# Altium integrated library Lattice CPLD ispMACH.IntLib: 663 symbols (part 15 of 48)
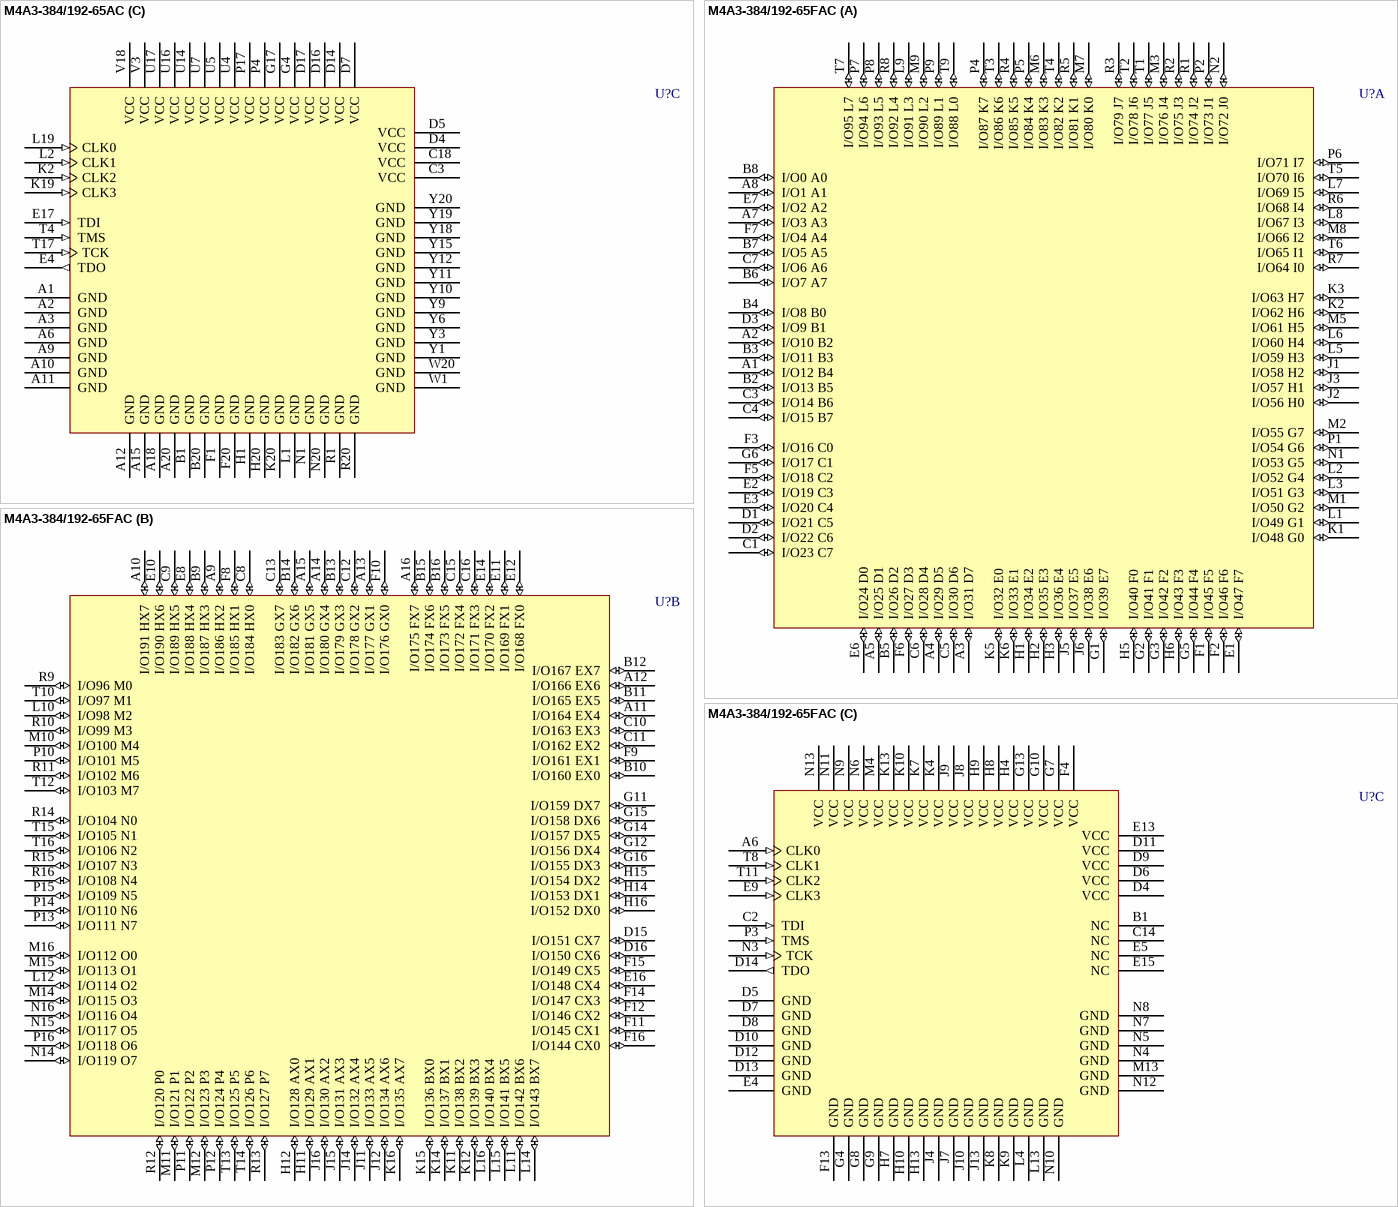
[diagram p320: symbols M4A3-384/192-65AC to M4A3-384/192-65FAC]

## M4A3-384/192-65FAC
designator U?
High-Performance EE CMOS In-System Programmable Logic; Published: 17-Jul-2002; LatestRevisionDate: 13-Apr-2006; LatestRevisionNote: IPC-7351 Footprint Added.; DatasheetVersion: Feb-2001; PackageVersion: pkg_32, Aug-2005; PackageReference: fpBGA256; Publisher: Altium Limited; PackageDescription: 256-Ball Fine Pitch Ball Grid Array (fpBGA256); Code_IPC: BGA100P16X16-256; ComponentLink1Description: Manufacturer Link; ComponentLink1URL: http://www.latticesemi.com/products/mature/index.cfm; ComponentLink2Description: Datasheet; ComponentLink2URL: http://www.latticesemi.com/account/_download.cfm?AMID=1344
footprint fpBGA256 (BGA, 256-Leads, Body 17x17mm, Pitch 1mm)
3D model M4A3-fpBGA256 (256-Ball Fine Pitch Ball Grid Array (fpBGA256))
part A pins: A1 I/O12 B4 (io), A2 I/O10 B2 (io), A3 I/O31 D7 (io), A4 I/O29 D5 (io), A5 I/O25 D1 (io), A7 I/O3 A3 (io), A8 I/O1 A1 (io), B2 I/O13 B5 (io), B3 I/O11 B3 (io), B4 I/O8 B0 (io), B5 I/O26 D2 (io), B6 I/O7 A7 (io), B7 I/O5 A5 (io), B8 I/O0 A0 (io), C1 I/O23 C7 (io), C3 I/O14 B6 (io), C4 I/O15 B7 (io), C5 I/O30 D6 (io), C6 I/O28 D4 (io), C7 I/O6 A6 (io), D1 I/O21 C5 (io), D2 I/O22 C6 (io), D3 I/O9 B1 (io), E1 I/O47 F7 (io), E2 I/O19 C3 (io), E3 I/O20 C4 (io), E6 I/O24 D0 (io), E7 I/O2 A2 (io), F1 I/O45 F5 (io), F2 I/O46 F6 (io), F3 I/O16 C0 (io), F5 I/O18 C2 (io), F6 I/O27 D3 (io), F7 I/O4 A4 (io), G1 I/O39 E7 (io), G2 I/O41 F1 (io), G3 I/O42 F2 (io), G5 I/O44 F4 (io), G6 I/O17 C1 (io), H1 I/O34 E2 (io), H2 I/O35 E3 (io), H3 I/O36 E4 (io), H5 I/O40 F0 (io), H6 I/O43 F3 (io), J1 I/O58 H2 (io), J2 I/O56 H0 (io), J3 I/O57 H1 (io), J5 I/O37 E5 (io), J6 I/O38 E6 (io), K1 I/O48 G0 (io), K2 I/O62 H6 (io), K3 I/O63 H7 (io), K5 I/O32 E0 (io), K6 I/O33 E1 (io), L1 I/O49 G1 (io), L2 I/O52 G4 (io), L3 I/O51 G3 (io), L5 I/O59 H3 (io), L6 I/O60 H4 (io), L7 I/O69 I5 (io), L8 I/O67 I3 (io), L9 I/O91 L3 (io), M1 I/O50 G2 (io), M2 I/O55 G7 (io), M3 I/O76 J4 (io), M5 I/O61 H5 (io), M6 I/O83 K3 (io), M7 I/O80 K0 (io), M8 I/O66 I2 (io), M9 I/O90 L2 (io), N1 I/O53 G5 (io), N2 I/O72 J0 (io), P1 I/O54 G6 (io), P2 I/O73 J1 (io), P4 I/O87 K7 (io), P5 I/O84 K4 (io), P6 I/O71 I7 (io), P7 I/O94 L6 (io), P8 I/O93 L5 (io), P9 I/O89 L1 (io), R1 I/O74 J2 (io), R2 I/O75 J3 (io), R3 I/O79 J7 (io), R4 I/O85 K5 (io), R5 I/O81 K1 (io), R6 I/O68 I4 (io), R7 I/O64 I0 (io), R8 I/O92 L4 (io), T1 I/O77 J5 (io), T2 I/O78 J6 (io), T3 I/O86 K6 (io), T4 I/O82 K2 (io), T5 I/O70 I6 (io), T6 I/O65 I1 (io), T7 I/O95 L7 (io), T9 I/O88 L0 (io)
part B pins: A9 I/O186 HX2 (io), A10 I/O191 HX7 (io), A11 I/O164 EX4 (io), A12 I/O166 EX6 (io), A13 I/O177 GX1 (io), A14 I/O180 GX4 (io), A15 I/O181 GX5 (io), A16 I/O175 FX7 (io), B9 I/O187 HX3 (io), B10 I/O160 EX0 (io), B11 I/O165 EX5 (io), B12 I/O167 EX7 (io), B13 I/O179 GX3 (io), B14 I/O182 GX6 (io), B15 I/O174 FX6 (io), B16 I/O173 FX5 (io), C8 I/O184 HX0 (io), C9 I/O189 HX5 (io), C10 I/O163 EX3 (io), C11 I/O162 EX2 (io), C12 I/O178 GX2 (io), C13 I/O183 GX7 (io), C15 I/O172 FX4 (io), C16 I/O171 FX3 (io), D15 I/O151 CX7 (io), D16 I/O150 CX6 (io), E8 I/O188 HX4 (io), E10 I/O190 HX6 (io), E11 I/O169 FX1 (io), E12 I/O168 FX0 (io), E14 I/O170 FX2 (io), E16 I/O148 CX4 (io), F8 I/O185 HX1 (io), F9 I/O161 EX1 (io), F10 I/O176 GX0 (io), F11 I/O145 CX1 (io), F12 I/O146 CX2 (io), F14 I/O147 CX3 (io), F15 I/O149 CX5 (io), F16 I/O144 CX0 (io), G11 I/O159 DX7 (io), G12 I/O156 DX4 (io), G14 I/O157 DX5 (io), G15 I/O158 DX6 (io), G16 I/O155 DX3 (io), H11 I/O129 AX1 (io), H12 I/O128 AX0 (io), H14 I/O153 DX1 (io), H15 I/O154 DX2 (io), H16 I/O152 DX0 (io), J11 I/O133 AX5 (io), J12 I/O134 AX6 (io), J14 I/O132 AX4 (io), J15 I/O131 AX3 (io), J16 I/O130 AX2 (io), K11 I/O138 BX2 (io), K12 I/O139 BX3 (io), K14 I/O137 BX1 (io), K15 I/O136 BX0 (io), K16 I/O135 AX7 (io), L10 I/O98 M2 (io), L11 I/O142 BX6 (io), L12 I/O114 O2 (io), L14 I/O143 BX7 (io), L15 I/O141 BX5 (io), L16 I/O140 BX4 (io), M10 I/O100 M4 (io), M11 I/O121 P1 (io), M12 I/O123 P3 (io), M14 I/O115 O3 (io), M15 I/O113 O1 (io), M16 I/O112 O0 (io), N14 I/O119 O7 (io), N15 I/O117 O5 (io), N16 I/O116 O4 (io), P10 I/O101 M5 (io), P11 I/O122 P2 (io), P12 I/O124 P4 (io), P13 I/O111 N7 (io), P14 I/O110 N6 (io), P15 I/O109 N5 (io), P16 I/O118 O6 (io), R9 I/O96 M0 (io), R10 I/O99 M3 (io), R11 I/O102 M6 (io), R12 I/O120 P0 (io), R13 I/O127 P7 (io), R14 I/O104 N0 (io), R15 I/O107 N3 (io), R16 I/O108 N4 (io), T10 I/O97 M1 (io), T12 I/O103 M7 (io), T13 I/O125 P5 (io), T14 I/O126 P6 (io), T15 I/O105 N1 (io), T16 I/O106 N2 (io)
part C pins: A6 CLK0 (in), B1 NC, C2 TDI (in), C14 NC, D4 VCC (power), D5 GND (power), D6 VCC (power), D7 GND (power), D8 GND (power), D9 VCC (power), D10 GND (power), D11 VCC (power), D12 GND (power), D13 GND (power), D14 TDO (out), E4 GND (power), E5 NC, E9 CLK3 (in), E13 VCC (power), E15 NC, F4 VCC (power), F13 GND (power), G4 GND (power), G7 VCC (power), G8 GND (power), G9 GND (power), G10 VCC (power), G13 VCC (power), H4 VCC (power), H7 GND (power), H8 VCC (power), H9 VCC (power), H10 GND (power), H13 GND (power), J4 GND (power), J7 GND (power), J8 VCC (power), J9 VCC (power), J10 GND (power), J13 GND (power), K4 VCC (power), K7 VCC (power), K8 GND (power), K9 GND (power), K10 VCC (power), K13 VCC (power), L4 GND (power), L13 GND (power), M4 VCC (power), M13 GND (power), N3 TCK (in), N4 GND (power), N5 GND (power), N6 VCC (power), N7 GND (power), N8 GND (power), N9 VCC (power), N10 GND (power), N11 VCC (power), N12 GND (power), N13 VCC (power), P3 TMS (in), T8 CLK1 (in), T11 CLK2 (in)

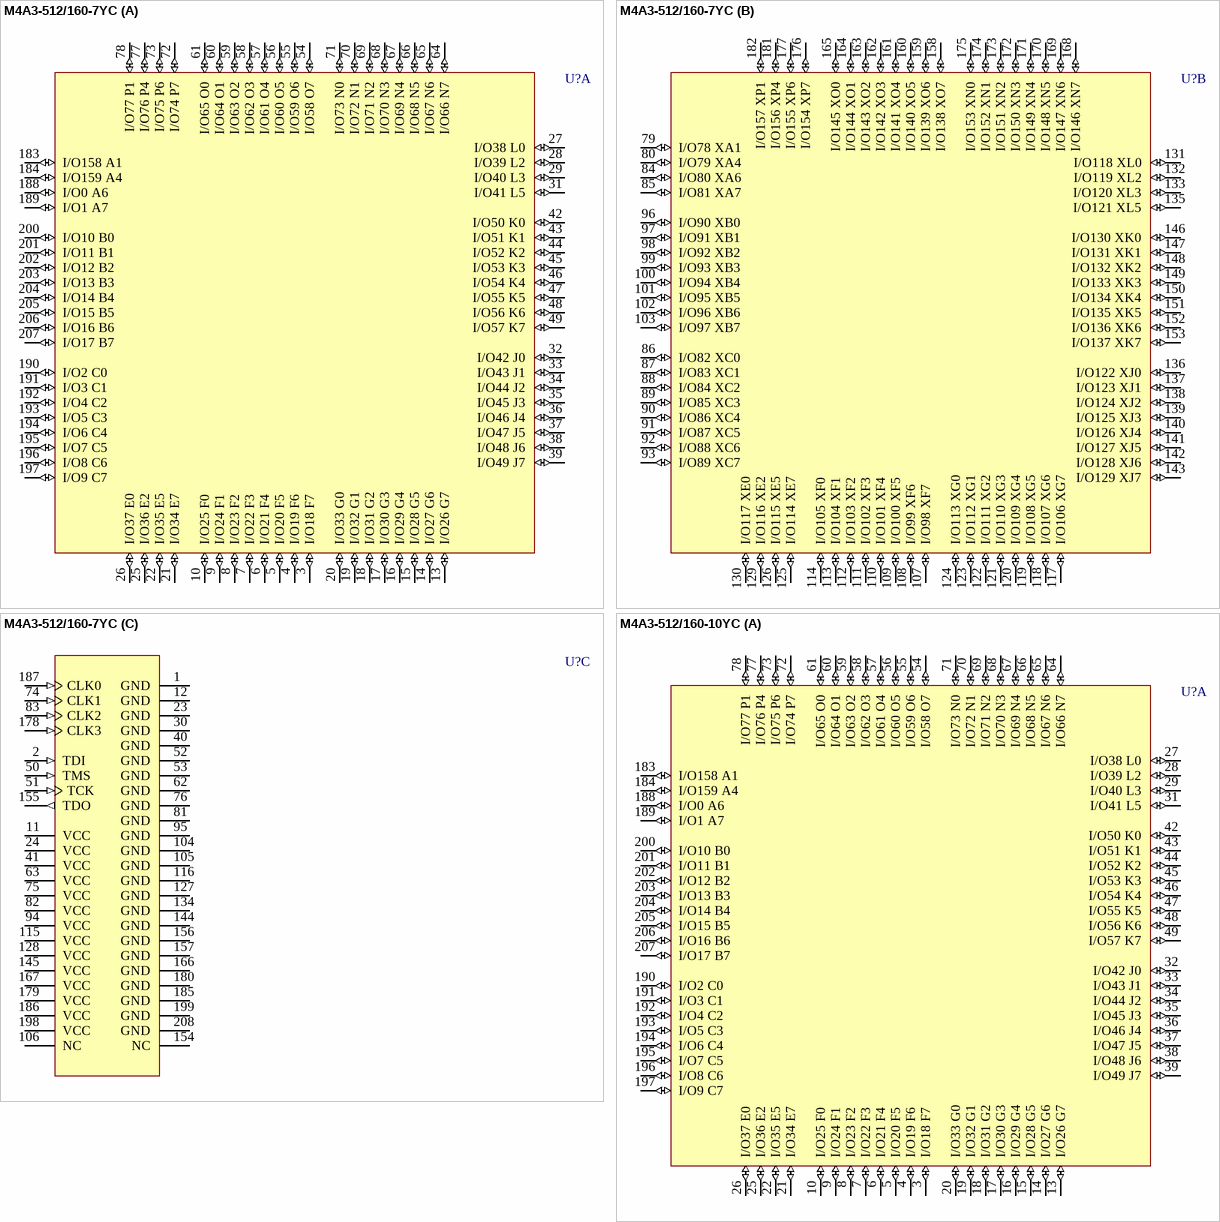
[diagram p88: symbols M4A3-512/160-7YC to M4A3-512/160-10YC]

## M4A3-512/160-7YC
designator U?
High-Performance EE CMOS In-System Programmable Logic; Published: 17-Jul-2002; LatestRevisionDate: 13-Apr-2006; LatestRevisionNote: IPC-7351 Footprint Added.; DatasheetVersion: Feb-2001; PackageVersion: pkg_32, Aug-2005; PackageReference: PQFP208; Publisher: Altium Limited; PackageDescription: 208-Pin Plastic Quad Flat Pack (PQFP208); Code_JEDEC: MO-143-FAI; ComponentLink1Description: Manufacturer Link; ComponentLink1URL: http://www.latticesemi.com/products/mature/index.cfm; ComponentLink2Description: Datasheet; ComponentLink2URL: http://www.latticesemi.com/account/_download.cfm?AMID=1344
footprint PQFP208_N (Shrink QFP, 208-Leads, Body 28x28mm, Pitch 0.5mm, IPC Medium Density)
footprint PQFP208_L (Shrink QFP, 208-Leads, Body 28x28mm, Pitch 0.5mm, IPC High Density)
footprint PQFP208_M (Shrink QFP, 208-Leads, Body 28x28mm, Pitch 0.5mm, IPC Low Density)
3D model M4A3-PQFP208 (208-Pin Plastic Quad Flat Pack (PQFP208))
part A pins: 3 I/O18 F7 (io), 4 I/O19 F6 (io), 5 I/O20 F5 (io), 6 I/O21 F4 (io), 7 I/O22 F3 (io), 8 I/O23 F2 (io), 9 I/O24 F1 (io), 10 I/O25 F0 (io), 13 I/O26 G7 (io), 14 I/O27 G6 (io), 15 I/O28 G5 (io), 16 I/O29 G4 (io), 17 I/O30 G3 (io), 18 I/O31 G2 (io), 19 I/O32 G1 (io), 20 I/O33 G0 (io), 21 I/O34 E7 (io), 22 I/O35 E5 (io), 25 I/O36 E2 (io), 26 I/O37 E0 (io), 27 I/O38 L0 (io), 28 I/O39 L2 (io), 29 I/O40 L3 (io), 31 I/O41 L5 (io), 32 I/O42 J0 (io), 33 I/O43 J1 (io), 34 I/O44 J2 (io), 35 I/O45 J3 (io), 36 I/O46 J4 (io), 37 I/O47 J5 (io), 38 I/O48 J6 (io), 39 I/O49 J7 (io), 42 I/O50 K0 (io), 43 I/O51 K1 (io), 44 I/O52 K2 (io), 45 I/O53 K3 (io), 46 I/O54 K4 (io), 47 I/O55 K5 (io), 48 I/O56 K6 (io), 49 I/O57 K7 (io), 54 I/O58 O7 (io), 55 I/O59 O6 (io), 56 I/O60 O5 (io), 57 I/O61 O4 (io), 58 I/O62 O3 (io), 59 I/O63 O2 (io), 60 I/O64 O1 (io), 61 I/O65 O0 (io), 64 I/O66 N7 (io), 65 I/O67 N6 (io), 66 I/O68 N5 (io), 67 I/O69 N4 (io), 68 I/O70 N3 (io), 69 I/O71 N2 (io), 70 I/O72 N1 (io), 71 I/O73 N0 (io), 72 I/O74 P7 (io), 73 I/O75 P6 (io), 77 I/O76 P4 (io), 78 I/O77 P1 (io), 183 I/O158 A1 (io), 184 I/O159 A4 (io), 188 I/O0 A6 (io), 189 I/O1 A7 (io), 190 I/O2 C0 (io), 191 I/O3 C1 (io), 192 I/O4 C2 (io), 193 I/O5 C3 (io), 194 I/O6 C4 (io), 195 I/O7 C5 (io), 196 I/O8 C6 (io), 197 I/O9 C7 (io), 200 I/O10 B0 (io), 201 I/O11 B1 (io), 202 I/O12 B2 (io), 203 I/O13 B3 (io), 204 I/O14 B4 (io), 205 I/O15 B5 (io), 206 I/O16 B6 (io), 207 I/O17 B7 (io)
part B pins: 79 I/O78 XA1 (io), 80 I/O79 XA4 (io), 84 I/O80 XA6 (io), 85 I/O81 XA7 (io), 86 I/O82 XC0 (io), 87 I/O83 XC1 (io), 88 I/O84 XC2 (io), 89 I/O85 XC3 (io), 90 I/O86 XC4 (io), 91 I/O87 XC5 (io), 92 I/O88 XC6 (io), 93 I/O89 XC7 (io), 96 I/O90 XB0 (io), 97 I/O91 XB1 (io), 98 I/O92 XB2 (io), 99 I/O93 XB3 (io), 100 I/O94 XB4 (io), 101 I/O95 XB5 (io), 102 I/O96 XB6 (io), 103 I/O97 XB7 (io), 107 I/O98 XF7 (io), 108 I/O99 XF6 (io), 109 I/O100 XF5 (io), 110 I/O101 XF4 (io), 111 I/O102 XF3 (io), 112 I/O103 XF2 (io), 113 I/O104 XF1 (io), 114 I/O105 XF0 (io), 117 I/O106 XG7 (io), 118 I/O107 XG6 (io), 119 I/O108 XG5 (io), 120 I/O109 XG4 (io), 121 I/O110 XG3 (io), 122 I/O111 XG2 (io), 123 I/O112 XG1 (io), 124 I/O113 XG0 (io), 125 I/O114 XE7 (io), 126 I/O115 XE5 (io), 129 I/O116 XE2 (io), 130 I/O117 XE0 (io), 131 I/O118 XL0 (io), 132 I/O119 XL2 (io), 133 I/O120 XL3 (io), 135 I/O121 XL5 (io), 136 I/O122 XJ0 (io), 137 I/O123 XJ1 (io), 138 I/O124 XJ2 (io), 139 I/O125 XJ3 (io), 140 I/O126 XJ4 (io), 141 I/O127 XJ5 (io), 142 I/O128 XJ6 (io), 143 I/O129 XJ7 (io), 146 I/O130 XK0 (io), 147 I/O131 XK1 (io), 148 I/O132 XK2 (io), 149 I/O133 XK3 (io), 150 I/O134 XK4 (io), 151 I/O135 XK5 (io), 152 I/O136 XK6 (io), 153 I/O137 XK7 (io), 158 I/O138 XO7 (io), 159 I/O139 XO6 (io), 160 I/O140 XO5 (io), 161 I/O141 XO4 (io), 162 I/O142 XO3 (io), 163 I/O143 XO2 (io), 164 I/O144 XO1 (io), 165 I/O145 XO0 (io), 168 I/O146 XN7 (io), 169 I/O147 XN6 (io), 170 I/O148 XN5 (io), 171 I/O149 XN4 (io), 172 I/O150 XN3 (io), 173 I/O151 XN2 (io), 174 I/O152 XN1 (io), 175 I/O153 XN0 (io), 176 I/O154 XP7 (io), 177 I/O155 XP6 (io), 181 I/O156 XP4 (io), 182 I/O157 XP1 (io)
part C pins: 1 GND (power), 2 TDI (in), 11 VCC (power), 12 GND (power), 23 GND (power), 24 VCC (power), 30 GND (power), 40 GND (power), 41 VCC (power), 50 TMS (in), 51 TCK (in), 52 GND (power), 53 GND (power), 62 GND (power), 63 VCC (power), 74 CLK1 (in), 75 VCC (power), 76 GND (power), 81 GND (power), 82 VCC (power), 83 CLK2 (in), 94 VCC (power), 95 GND (power), 104 GND (power), 105 GND (power), 106 NC, 115 VCC (power), 116 GND (power), 127 GND (power), 128 VCC (power), 134 GND (power), 144 GND (power), 145 VCC (power), 154 NC, 155 TDO (out), 156 GND (power), 157 GND (power), 166 GND (power), 167 VCC (power), 178 CLK3 (in), 179 VCC (power), 180 GND (power), 185 GND (power), 186 VCC (power), 187 CLK0 (in), 198 VCC (power), 199 GND (power), 208 GND (power)

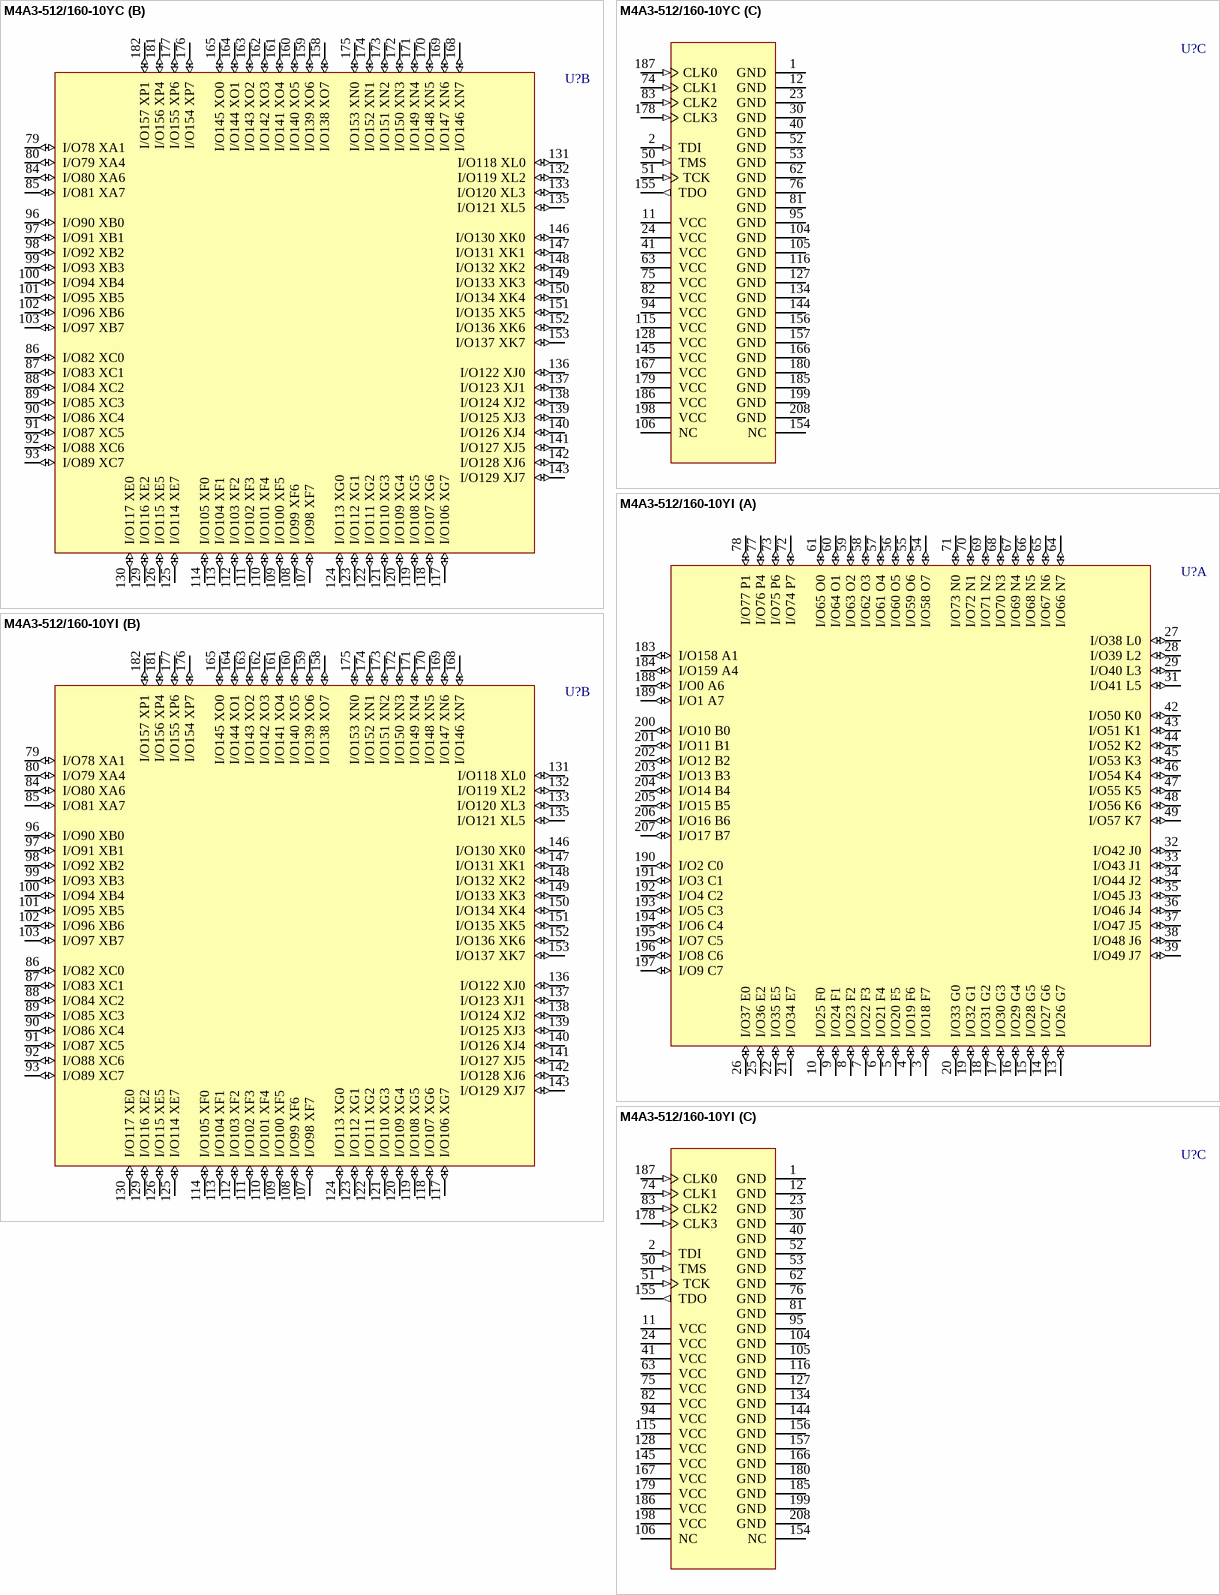
[diagram p89: symbols M4A3-512/160-10YC to M4A3-512/160-10YI]

## M4A3-512/160-10YC
designator U?
High-Performance EE CMOS In-System Programmable Logic; Published: 17-Jul-2002; LatestRevisionDate: 13-Apr-2006; LatestRevisionNote: IPC-7351 Footprint Added.; DatasheetVersion: Feb-2001; PackageVersion: pkg_32, Aug-2005; PackageReference: PQFP208; Publisher: Altium Limited; PackageDescription: 208-Pin Plastic Quad Flat Pack (PQFP208); Code_JEDEC: MO-143-FAI; ComponentLink1Description: Manufacturer Link; ComponentLink1URL: http://www.latticesemi.com/products/mature/index.cfm; ComponentLink2Description: Datasheet; ComponentLink2URL: http://www.latticesemi.com/account/_download.cfm?AMID=1344
footprint PQFP208_N (Shrink QFP, 208-Leads, Body 28x28mm, Pitch 0.5mm, IPC Medium Density)
footprint PQFP208_L (Shrink QFP, 208-Leads, Body 28x28mm, Pitch 0.5mm, IPC High Density)
footprint PQFP208_M (Shrink QFP, 208-Leads, Body 28x28mm, Pitch 0.5mm, IPC Low Density)
3D model M4A3-PQFP208 (208-Pin Plastic Quad Flat Pack (PQFP208))
part A pins: 3 I/O18 F7 (io), 4 I/O19 F6 (io), 5 I/O20 F5 (io), 6 I/O21 F4 (io), 7 I/O22 F3 (io), 8 I/O23 F2 (io), 9 I/O24 F1 (io), 10 I/O25 F0 (io), 13 I/O26 G7 (io), 14 I/O27 G6 (io), 15 I/O28 G5 (io), 16 I/O29 G4 (io), 17 I/O30 G3 (io), 18 I/O31 G2 (io), 19 I/O32 G1 (io), 20 I/O33 G0 (io), 21 I/O34 E7 (io), 22 I/O35 E5 (io), 25 I/O36 E2 (io), 26 I/O37 E0 (io), 27 I/O38 L0 (io), 28 I/O39 L2 (io), 29 I/O40 L3 (io), 31 I/O41 L5 (io), 32 I/O42 J0 (io), 33 I/O43 J1 (io), 34 I/O44 J2 (io), 35 I/O45 J3 (io), 36 I/O46 J4 (io), 37 I/O47 J5 (io), 38 I/O48 J6 (io), 39 I/O49 J7 (io), 42 I/O50 K0 (io), 43 I/O51 K1 (io), 44 I/O52 K2 (io), 45 I/O53 K3 (io), 46 I/O54 K4 (io), 47 I/O55 K5 (io), 48 I/O56 K6 (io), 49 I/O57 K7 (io), 54 I/O58 O7 (io), 55 I/O59 O6 (io), 56 I/O60 O5 (io), 57 I/O61 O4 (io), 58 I/O62 O3 (io), 59 I/O63 O2 (io), 60 I/O64 O1 (io), 61 I/O65 O0 (io), 64 I/O66 N7 (io), 65 I/O67 N6 (io), 66 I/O68 N5 (io), 67 I/O69 N4 (io), 68 I/O70 N3 (io), 69 I/O71 N2 (io), 70 I/O72 N1 (io), 71 I/O73 N0 (io), 72 I/O74 P7 (io), 73 I/O75 P6 (io), 77 I/O76 P4 (io), 78 I/O77 P1 (io), 183 I/O158 A1 (io), 184 I/O159 A4 (io), 188 I/O0 A6 (io), 189 I/O1 A7 (io), 190 I/O2 C0 (io), 191 I/O3 C1 (io), 192 I/O4 C2 (io), 193 I/O5 C3 (io), 194 I/O6 C4 (io), 195 I/O7 C5 (io), 196 I/O8 C6 (io), 197 I/O9 C7 (io), 200 I/O10 B0 (io), 201 I/O11 B1 (io), 202 I/O12 B2 (io), 203 I/O13 B3 (io), 204 I/O14 B4 (io), 205 I/O15 B5 (io), 206 I/O16 B6 (io), 207 I/O17 B7 (io)
part B pins: 79 I/O78 XA1 (io), 80 I/O79 XA4 (io), 84 I/O80 XA6 (io), 85 I/O81 XA7 (io), 86 I/O82 XC0 (io), 87 I/O83 XC1 (io), 88 I/O84 XC2 (io), 89 I/O85 XC3 (io), 90 I/O86 XC4 (io), 91 I/O87 XC5 (io), 92 I/O88 XC6 (io), 93 I/O89 XC7 (io), 96 I/O90 XB0 (io), 97 I/O91 XB1 (io), 98 I/O92 XB2 (io), 99 I/O93 XB3 (io), 100 I/O94 XB4 (io), 101 I/O95 XB5 (io), 102 I/O96 XB6 (io), 103 I/O97 XB7 (io), 107 I/O98 XF7 (io), 108 I/O99 XF6 (io), 109 I/O100 XF5 (io), 110 I/O101 XF4 (io), 111 I/O102 XF3 (io), 112 I/O103 XF2 (io), 113 I/O104 XF1 (io), 114 I/O105 XF0 (io), 117 I/O106 XG7 (io), 118 I/O107 XG6 (io), 119 I/O108 XG5 (io), 120 I/O109 XG4 (io), 121 I/O110 XG3 (io), 122 I/O111 XG2 (io), 123 I/O112 XG1 (io), 124 I/O113 XG0 (io), 125 I/O114 XE7 (io), 126 I/O115 XE5 (io), 129 I/O116 XE2 (io), 130 I/O117 XE0 (io), 131 I/O118 XL0 (io), 132 I/O119 XL2 (io), 133 I/O120 XL3 (io), 135 I/O121 XL5 (io), 136 I/O122 XJ0 (io), 137 I/O123 XJ1 (io), 138 I/O124 XJ2 (io), 139 I/O125 XJ3 (io), 140 I/O126 XJ4 (io), 141 I/O127 XJ5 (io), 142 I/O128 XJ6 (io), 143 I/O129 XJ7 (io), 146 I/O130 XK0 (io), 147 I/O131 XK1 (io), 148 I/O132 XK2 (io), 149 I/O133 XK3 (io), 150 I/O134 XK4 (io), 151 I/O135 XK5 (io), 152 I/O136 XK6 (io), 153 I/O137 XK7 (io), 158 I/O138 XO7 (io), 159 I/O139 XO6 (io), 160 I/O140 XO5 (io), 161 I/O141 XO4 (io), 162 I/O142 XO3 (io), 163 I/O143 XO2 (io), 164 I/O144 XO1 (io), 165 I/O145 XO0 (io), 168 I/O146 XN7 (io), 169 I/O147 XN6 (io), 170 I/O148 XN5 (io), 171 I/O149 XN4 (io), 172 I/O150 XN3 (io), 173 I/O151 XN2 (io), 174 I/O152 XN1 (io), 175 I/O153 XN0 (io), 176 I/O154 XP7 (io), 177 I/O155 XP6 (io), 181 I/O156 XP4 (io), 182 I/O157 XP1 (io)
part C pins: 1 GND (power), 2 TDI (in), 11 VCC (power), 12 GND (power), 23 GND (power), 24 VCC (power), 30 GND (power), 40 GND (power), 41 VCC (power), 50 TMS (in), 51 TCK (in), 52 GND (power), 53 GND (power), 62 GND (power), 63 VCC (power), 74 CLK1 (in), 75 VCC (power), 76 GND (power), 81 GND (power), 82 VCC (power), 83 CLK2 (in), 94 VCC (power), 95 GND (power), 104 GND (power), 105 GND (power), 106 NC, 115 VCC (power), 116 GND (power), 127 GND (power), 128 VCC (power), 134 GND (power), 144 GND (power), 145 VCC (power), 154 NC, 155 TDO (out), 156 GND (power), 157 GND (power), 166 GND (power), 167 VCC (power), 178 CLK3 (in), 179 VCC (power), 180 GND (power), 185 GND (power), 186 VCC (power), 187 CLK0 (in), 198 VCC (power), 199 GND (power), 208 GND (power)

## M4A3-512/160-10YI
designator U?
High-Performance EE CMOS In-System Programmable Logic; Published: 17-Jul-2002; LatestRevisionDate: 13-Apr-2006; LatestRevisionNote: IPC-7351 Footprint Added.; DatasheetVersion: Feb-2001; PackageVersion: pkg_32, Aug-2005; PackageReference: PQFP208; Publisher: Altium Limited; PackageDescription: 208-Pin Plastic Quad Flat Pack (PQFP208); Code_JEDEC: MO-143-FAI; ComponentLink1Description: Manufacturer Link; ComponentLink1URL: http://www.latticesemi.com/products/mature/index.cfm; ComponentLink2Description: Datasheet; ComponentLink2URL: http://www.latticesemi.com/account/_download.cfm?AMID=1344
footprint PQFP208_N (Shrink QFP, 208-Leads, Body 28x28mm, Pitch 0.5mm, IPC Medium Density)
footprint PQFP208_L (Shrink QFP, 208-Leads, Body 28x28mm, Pitch 0.5mm, IPC High Density)
footprint PQFP208_M (Shrink QFP, 208-Leads, Body 28x28mm, Pitch 0.5mm, IPC Low Density)
3D model M4A3-PQFP208 (208-Pin Plastic Quad Flat Pack (PQFP208))
part A pins: 3 I/O18 F7 (io), 4 I/O19 F6 (io), 5 I/O20 F5 (io), 6 I/O21 F4 (io), 7 I/O22 F3 (io), 8 I/O23 F2 (io), 9 I/O24 F1 (io), 10 I/O25 F0 (io), 13 I/O26 G7 (io), 14 I/O27 G6 (io), 15 I/O28 G5 (io), 16 I/O29 G4 (io), 17 I/O30 G3 (io), 18 I/O31 G2 (io), 19 I/O32 G1 (io), 20 I/O33 G0 (io), 21 I/O34 E7 (io), 22 I/O35 E5 (io), 25 I/O36 E2 (io), 26 I/O37 E0 (io), 27 I/O38 L0 (io), 28 I/O39 L2 (io), 29 I/O40 L3 (io), 31 I/O41 L5 (io), 32 I/O42 J0 (io), 33 I/O43 J1 (io), 34 I/O44 J2 (io), 35 I/O45 J3 (io), 36 I/O46 J4 (io), 37 I/O47 J5 (io), 38 I/O48 J6 (io), 39 I/O49 J7 (io), 42 I/O50 K0 (io), 43 I/O51 K1 (io), 44 I/O52 K2 (io), 45 I/O53 K3 (io), 46 I/O54 K4 (io), 47 I/O55 K5 (io), 48 I/O56 K6 (io), 49 I/O57 K7 (io), 54 I/O58 O7 (io), 55 I/O59 O6 (io), 56 I/O60 O5 (io), 57 I/O61 O4 (io), 58 I/O62 O3 (io), 59 I/O63 O2 (io), 60 I/O64 O1 (io), 61 I/O65 O0 (io), 64 I/O66 N7 (io), 65 I/O67 N6 (io), 66 I/O68 N5 (io), 67 I/O69 N4 (io), 68 I/O70 N3 (io), 69 I/O71 N2 (io), 70 I/O72 N1 (io), 71 I/O73 N0 (io), 72 I/O74 P7 (io), 73 I/O75 P6 (io), 77 I/O76 P4 (io), 78 I/O77 P1 (io), 183 I/O158 A1 (io), 184 I/O159 A4 (io), 188 I/O0 A6 (io), 189 I/O1 A7 (io), 190 I/O2 C0 (io), 191 I/O3 C1 (io), 192 I/O4 C2 (io), 193 I/O5 C3 (io), 194 I/O6 C4 (io), 195 I/O7 C5 (io), 196 I/O8 C6 (io), 197 I/O9 C7 (io), 200 I/O10 B0 (io), 201 I/O11 B1 (io), 202 I/O12 B2 (io), 203 I/O13 B3 (io), 204 I/O14 B4 (io), 205 I/O15 B5 (io), 206 I/O16 B6 (io), 207 I/O17 B7 (io)
part B pins: 79 I/O78 XA1 (io), 80 I/O79 XA4 (io), 84 I/O80 XA6 (io), 85 I/O81 XA7 (io), 86 I/O82 XC0 (io), 87 I/O83 XC1 (io), 88 I/O84 XC2 (io), 89 I/O85 XC3 (io), 90 I/O86 XC4 (io), 91 I/O87 XC5 (io), 92 I/O88 XC6 (io), 93 I/O89 XC7 (io), 96 I/O90 XB0 (io), 97 I/O91 XB1 (io), 98 I/O92 XB2 (io), 99 I/O93 XB3 (io), 100 I/O94 XB4 (io), 101 I/O95 XB5 (io), 102 I/O96 XB6 (io), 103 I/O97 XB7 (io), 107 I/O98 XF7 (io), 108 I/O99 XF6 (io), 109 I/O100 XF5 (io), 110 I/O101 XF4 (io), 111 I/O102 XF3 (io), 112 I/O103 XF2 (io), 113 I/O104 XF1 (io), 114 I/O105 XF0 (io), 117 I/O106 XG7 (io), 118 I/O107 XG6 (io), 119 I/O108 XG5 (io), 120 I/O109 XG4 (io), 121 I/O110 XG3 (io), 122 I/O111 XG2 (io), 123 I/O112 XG1 (io), 124 I/O113 XG0 (io), 125 I/O114 XE7 (io), 126 I/O115 XE5 (io), 129 I/O116 XE2 (io), 130 I/O117 XE0 (io), 131 I/O118 XL0 (io), 132 I/O119 XL2 (io), 133 I/O120 XL3 (io), 135 I/O121 XL5 (io), 136 I/O122 XJ0 (io), 137 I/O123 XJ1 (io), 138 I/O124 XJ2 (io), 139 I/O125 XJ3 (io), 140 I/O126 XJ4 (io), 141 I/O127 XJ5 (io), 142 I/O128 XJ6 (io), 143 I/O129 XJ7 (io), 146 I/O130 XK0 (io), 147 I/O131 XK1 (io), 148 I/O132 XK2 (io), 149 I/O133 XK3 (io), 150 I/O134 XK4 (io), 151 I/O135 XK5 (io), 152 I/O136 XK6 (io), 153 I/O137 XK7 (io), 158 I/O138 XO7 (io), 159 I/O139 XO6 (io), 160 I/O140 XO5 (io), 161 I/O141 XO4 (io), 162 I/O142 XO3 (io), 163 I/O143 XO2 (io), 164 I/O144 XO1 (io), 165 I/O145 XO0 (io), 168 I/O146 XN7 (io), 169 I/O147 XN6 (io), 170 I/O148 XN5 (io), 171 I/O149 XN4 (io), 172 I/O150 XN3 (io), 173 I/O151 XN2 (io), 174 I/O152 XN1 (io), 175 I/O153 XN0 (io), 176 I/O154 XP7 (io), 177 I/O155 XP6 (io), 181 I/O156 XP4 (io), 182 I/O157 XP1 (io)
part C pins: 1 GND (power), 2 TDI (in), 11 VCC (power), 12 GND (power), 23 GND (power), 24 VCC (power), 30 GND (power), 40 GND (power), 41 VCC (power), 50 TMS (in), 51 TCK (in), 52 GND (power), 53 GND (power), 62 GND (power), 63 VCC (power), 74 CLK1 (in), 75 VCC (power), 76 GND (power), 81 GND (power), 82 VCC (power), 83 CLK2 (in), 94 VCC (power), 95 GND (power), 104 GND (power), 105 GND (power), 106 NC, 115 VCC (power), 116 GND (power), 127 GND (power), 128 VCC (power), 134 GND (power), 144 GND (power), 145 VCC (power), 154 NC, 155 TDO (out), 156 GND (power), 157 GND (power), 166 GND (power), 167 VCC (power), 178 CLK3 (in), 179 VCC (power), 180 GND (power), 185 GND (power), 186 VCC (power), 187 CLK0 (in), 198 VCC (power), 199 GND (power), 208 GND (power)

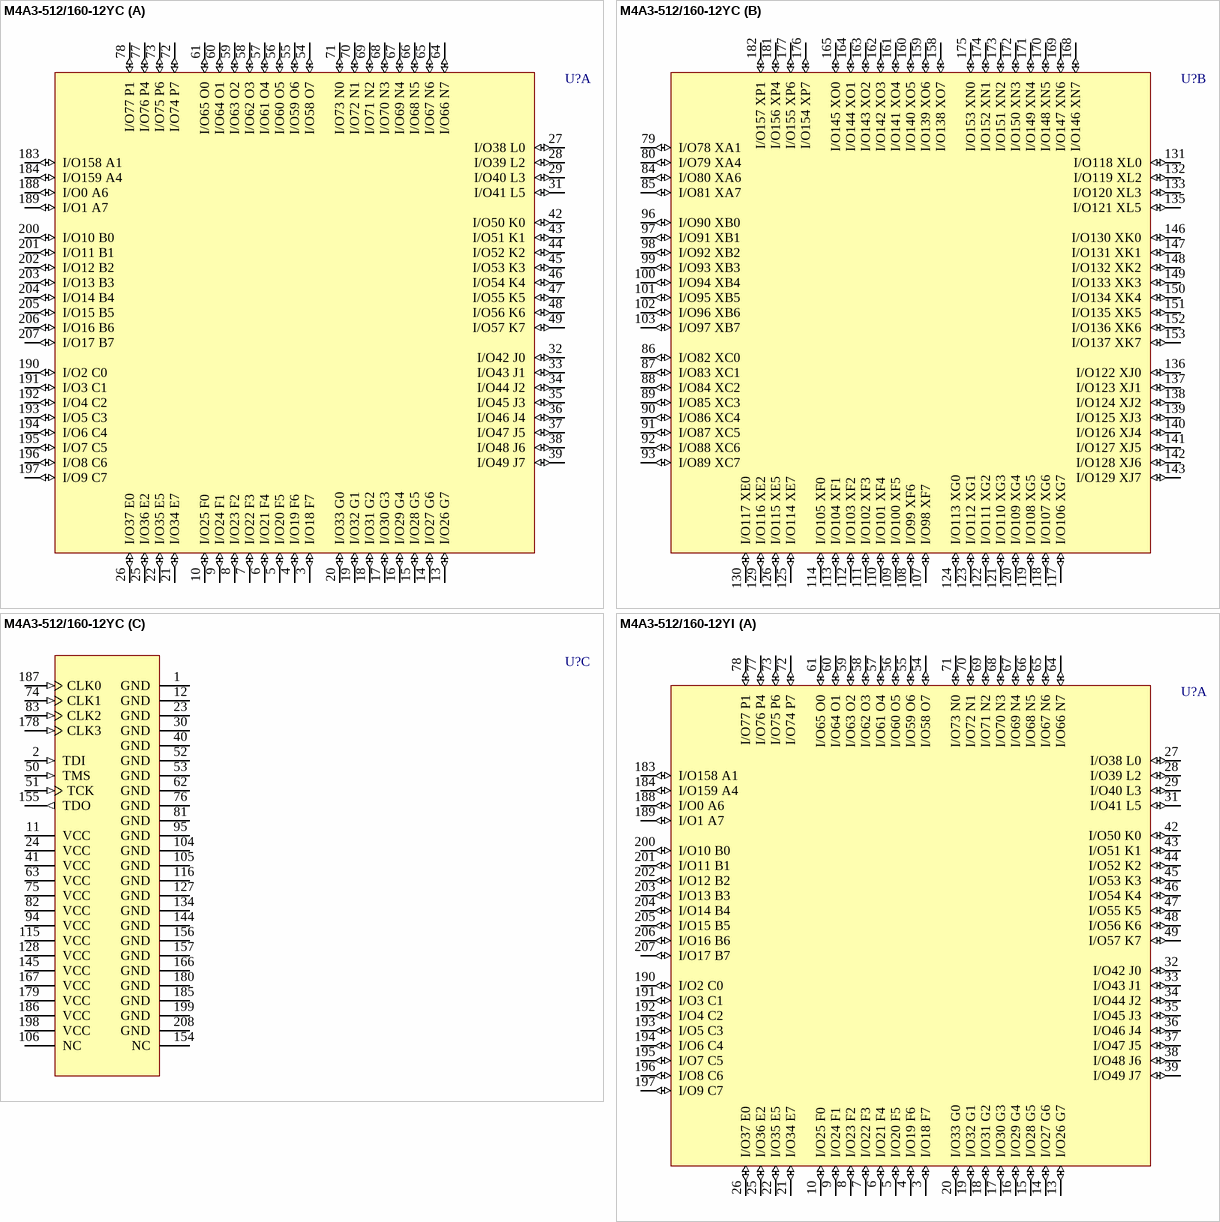
[diagram p90: symbols M4A3-512/160-12YC to M4A3-512/160-12YI]

## M4A3-512/160-12YC
designator U?
High-Performance EE CMOS In-System Programmable Logic; Published: 17-Jul-2002; LatestRevisionDate: 13-Apr-2006; LatestRevisionNote: IPC-7351 Footprint Added.; DatasheetVersion: Feb-2001; PackageVersion: pkg_32, Aug-2005; PackageReference: PQFP208; Publisher: Altium Limited; PackageDescription: 208-Pin Plastic Quad Flat Pack (PQFP208); Code_JEDEC: MO-143-FAI; ComponentLink1Description: Manufacturer Link; ComponentLink1URL: http://www.latticesemi.com/products/mature/index.cfm; ComponentLink2Description: Datasheet; ComponentLink2URL: http://www.latticesemi.com/account/_download.cfm?AMID=1344
footprint PQFP208_N (Shrink QFP, 208-Leads, Body 28x28mm, Pitch 0.5mm, IPC Medium Density)
footprint PQFP208_L (Shrink QFP, 208-Leads, Body 28x28mm, Pitch 0.5mm, IPC High Density)
footprint PQFP208_M (Shrink QFP, 208-Leads, Body 28x28mm, Pitch 0.5mm, IPC Low Density)
3D model M4A3-PQFP208 (208-Pin Plastic Quad Flat Pack (PQFP208))
part A pins: 3 I/O18 F7 (io), 4 I/O19 F6 (io), 5 I/O20 F5 (io), 6 I/O21 F4 (io), 7 I/O22 F3 (io), 8 I/O23 F2 (io), 9 I/O24 F1 (io), 10 I/O25 F0 (io), 13 I/O26 G7 (io), 14 I/O27 G6 (io), 15 I/O28 G5 (io), 16 I/O29 G4 (io), 17 I/O30 G3 (io), 18 I/O31 G2 (io), 19 I/O32 G1 (io), 20 I/O33 G0 (io), 21 I/O34 E7 (io), 22 I/O35 E5 (io), 25 I/O36 E2 (io), 26 I/O37 E0 (io), 27 I/O38 L0 (io), 28 I/O39 L2 (io), 29 I/O40 L3 (io), 31 I/O41 L5 (io), 32 I/O42 J0 (io), 33 I/O43 J1 (io), 34 I/O44 J2 (io), 35 I/O45 J3 (io), 36 I/O46 J4 (io), 37 I/O47 J5 (io), 38 I/O48 J6 (io), 39 I/O49 J7 (io), 42 I/O50 K0 (io), 43 I/O51 K1 (io), 44 I/O52 K2 (io), 45 I/O53 K3 (io), 46 I/O54 K4 (io), 47 I/O55 K5 (io), 48 I/O56 K6 (io), 49 I/O57 K7 (io), 54 I/O58 O7 (io), 55 I/O59 O6 (io), 56 I/O60 O5 (io), 57 I/O61 O4 (io), 58 I/O62 O3 (io), 59 I/O63 O2 (io), 60 I/O64 O1 (io), 61 I/O65 O0 (io), 64 I/O66 N7 (io), 65 I/O67 N6 (io), 66 I/O68 N5 (io), 67 I/O69 N4 (io), 68 I/O70 N3 (io), 69 I/O71 N2 (io), 70 I/O72 N1 (io), 71 I/O73 N0 (io), 72 I/O74 P7 (io), 73 I/O75 P6 (io), 77 I/O76 P4 (io), 78 I/O77 P1 (io), 183 I/O158 A1 (io), 184 I/O159 A4 (io), 188 I/O0 A6 (io), 189 I/O1 A7 (io), 190 I/O2 C0 (io), 191 I/O3 C1 (io), 192 I/O4 C2 (io), 193 I/O5 C3 (io), 194 I/O6 C4 (io), 195 I/O7 C5 (io), 196 I/O8 C6 (io), 197 I/O9 C7 (io), 200 I/O10 B0 (io), 201 I/O11 B1 (io), 202 I/O12 B2 (io), 203 I/O13 B3 (io), 204 I/O14 B4 (io), 205 I/O15 B5 (io), 206 I/O16 B6 (io), 207 I/O17 B7 (io)
part B pins: 79 I/O78 XA1 (io), 80 I/O79 XA4 (io), 84 I/O80 XA6 (io), 85 I/O81 XA7 (io), 86 I/O82 XC0 (io), 87 I/O83 XC1 (io), 88 I/O84 XC2 (io), 89 I/O85 XC3 (io), 90 I/O86 XC4 (io), 91 I/O87 XC5 (io), 92 I/O88 XC6 (io), 93 I/O89 XC7 (io), 96 I/O90 XB0 (io), 97 I/O91 XB1 (io), 98 I/O92 XB2 (io), 99 I/O93 XB3 (io), 100 I/O94 XB4 (io), 101 I/O95 XB5 (io), 102 I/O96 XB6 (io), 103 I/O97 XB7 (io), 107 I/O98 XF7 (io), 108 I/O99 XF6 (io), 109 I/O100 XF5 (io), 110 I/O101 XF4 (io), 111 I/O102 XF3 (io), 112 I/O103 XF2 (io), 113 I/O104 XF1 (io), 114 I/O105 XF0 (io), 117 I/O106 XG7 (io), 118 I/O107 XG6 (io), 119 I/O108 XG5 (io), 120 I/O109 XG4 (io), 121 I/O110 XG3 (io), 122 I/O111 XG2 (io), 123 I/O112 XG1 (io), 124 I/O113 XG0 (io), 125 I/O114 XE7 (io), 126 I/O115 XE5 (io), 129 I/O116 XE2 (io), 130 I/O117 XE0 (io), 131 I/O118 XL0 (io), 132 I/O119 XL2 (io), 133 I/O120 XL3 (io), 135 I/O121 XL5 (io), 136 I/O122 XJ0 (io), 137 I/O123 XJ1 (io), 138 I/O124 XJ2 (io), 139 I/O125 XJ3 (io), 140 I/O126 XJ4 (io), 141 I/O127 XJ5 (io), 142 I/O128 XJ6 (io), 143 I/O129 XJ7 (io), 146 I/O130 XK0 (io), 147 I/O131 XK1 (io), 148 I/O132 XK2 (io), 149 I/O133 XK3 (io), 150 I/O134 XK4 (io), 151 I/O135 XK5 (io), 152 I/O136 XK6 (io), 153 I/O137 XK7 (io), 158 I/O138 XO7 (io), 159 I/O139 XO6 (io), 160 I/O140 XO5 (io), 161 I/O141 XO4 (io), 162 I/O142 XO3 (io), 163 I/O143 XO2 (io), 164 I/O144 XO1 (io), 165 I/O145 XO0 (io), 168 I/O146 XN7 (io), 169 I/O147 XN6 (io), 170 I/O148 XN5 (io), 171 I/O149 XN4 (io), 172 I/O150 XN3 (io), 173 I/O151 XN2 (io), 174 I/O152 XN1 (io), 175 I/O153 XN0 (io), 176 I/O154 XP7 (io), 177 I/O155 XP6 (io), 181 I/O156 XP4 (io), 182 I/O157 XP1 (io)
part C pins: 1 GND (power), 2 TDI (in), 11 VCC (power), 12 GND (power), 23 GND (power), 24 VCC (power), 30 GND (power), 40 GND (power), 41 VCC (power), 50 TMS (in), 51 TCK (in), 52 GND (power), 53 GND (power), 62 GND (power), 63 VCC (power), 74 CLK1 (in), 75 VCC (power), 76 GND (power), 81 GND (power), 82 VCC (power), 83 CLK2 (in), 94 VCC (power), 95 GND (power), 104 GND (power), 105 GND (power), 106 NC, 115 VCC (power), 116 GND (power), 127 GND (power), 128 VCC (power), 134 GND (power), 144 GND (power), 145 VCC (power), 154 NC, 155 TDO (out), 156 GND (power), 157 GND (power), 166 GND (power), 167 VCC (power), 178 CLK3 (in), 179 VCC (power), 180 GND (power), 185 GND (power), 186 VCC (power), 187 CLK0 (in), 198 VCC (power), 199 GND (power), 208 GND (power)

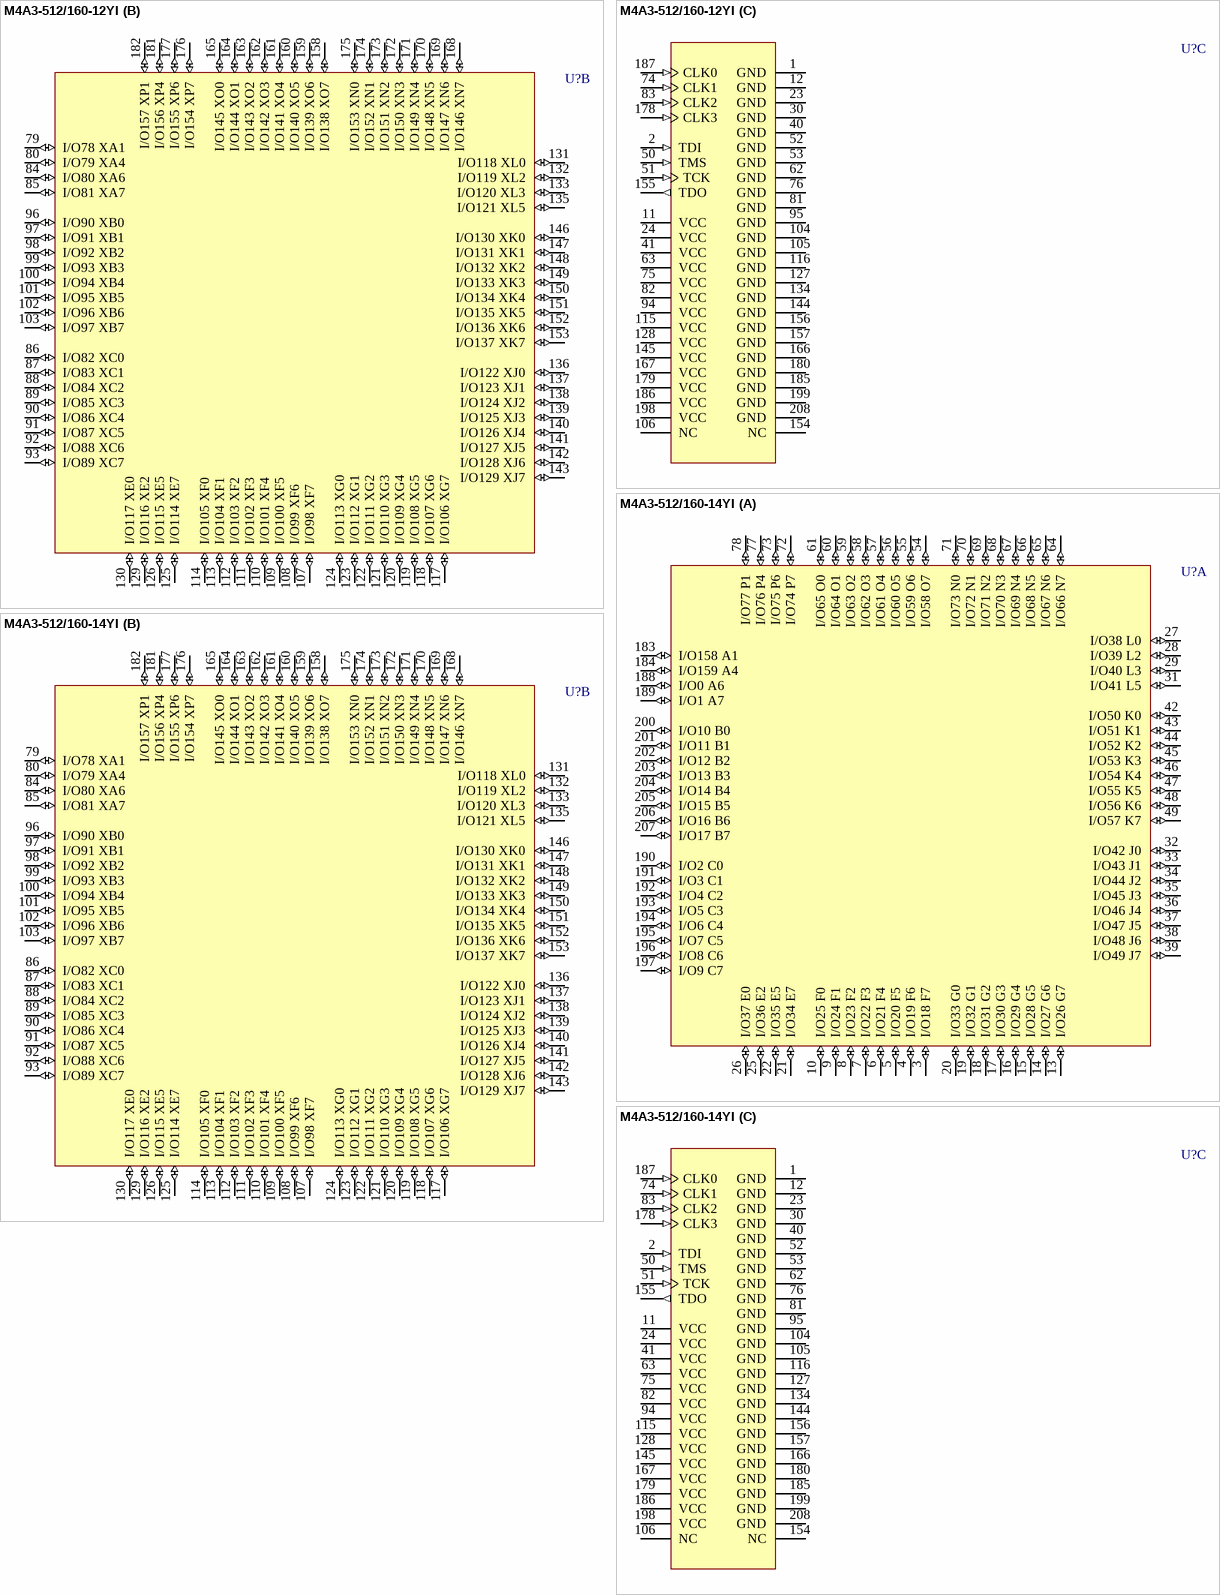
[diagram p91: symbols M4A3-512/160-12YI to M4A3-512/160-14YI]

## M4A3-512/160-12YI
designator U?
High-Performance EE CMOS In-System Programmable Logic; Published: 17-Jul-2002; LatestRevisionDate: 13-Apr-2006; LatestRevisionNote: IPC-7351 Footprint Added.; DatasheetVersion: Feb-2001; PackageVersion: pkg_32, Aug-2005; PackageReference: PQFP208; Publisher: Altium Limited; PackageDescription: 208-Pin Plastic Quad Flat Pack (PQFP208); Code_JEDEC: MO-143-FAI; ComponentLink1Description: Manufacturer Link; ComponentLink1URL: http://www.latticesemi.com/products/mature/index.cfm; ComponentLink2Description: Datasheet; ComponentLink2URL: http://www.latticesemi.com/account/_download.cfm?AMID=1344
footprint PQFP208_N (Shrink QFP, 208-Leads, Body 28x28mm, Pitch 0.5mm, IPC Medium Density)
footprint PQFP208_L (Shrink QFP, 208-Leads, Body 28x28mm, Pitch 0.5mm, IPC High Density)
footprint PQFP208_M (Shrink QFP, 208-Leads, Body 28x28mm, Pitch 0.5mm, IPC Low Density)
3D model M4A3-PQFP208 (208-Pin Plastic Quad Flat Pack (PQFP208))
part A pins: 3 I/O18 F7 (io), 4 I/O19 F6 (io), 5 I/O20 F5 (io), 6 I/O21 F4 (io), 7 I/O22 F3 (io), 8 I/O23 F2 (io), 9 I/O24 F1 (io), 10 I/O25 F0 (io), 13 I/O26 G7 (io), 14 I/O27 G6 (io), 15 I/O28 G5 (io), 16 I/O29 G4 (io), 17 I/O30 G3 (io), 18 I/O31 G2 (io), 19 I/O32 G1 (io), 20 I/O33 G0 (io), 21 I/O34 E7 (io), 22 I/O35 E5 (io), 25 I/O36 E2 (io), 26 I/O37 E0 (io), 27 I/O38 L0 (io), 28 I/O39 L2 (io), 29 I/O40 L3 (io), 31 I/O41 L5 (io), 32 I/O42 J0 (io), 33 I/O43 J1 (io), 34 I/O44 J2 (io), 35 I/O45 J3 (io), 36 I/O46 J4 (io), 37 I/O47 J5 (io), 38 I/O48 J6 (io), 39 I/O49 J7 (io), 42 I/O50 K0 (io), 43 I/O51 K1 (io), 44 I/O52 K2 (io), 45 I/O53 K3 (io), 46 I/O54 K4 (io), 47 I/O55 K5 (io), 48 I/O56 K6 (io), 49 I/O57 K7 (io), 54 I/O58 O7 (io), 55 I/O59 O6 (io), 56 I/O60 O5 (io), 57 I/O61 O4 (io), 58 I/O62 O3 (io), 59 I/O63 O2 (io), 60 I/O64 O1 (io), 61 I/O65 O0 (io), 64 I/O66 N7 (io), 65 I/O67 N6 (io), 66 I/O68 N5 (io), 67 I/O69 N4 (io), 68 I/O70 N3 (io), 69 I/O71 N2 (io), 70 I/O72 N1 (io), 71 I/O73 N0 (io), 72 I/O74 P7 (io), 73 I/O75 P6 (io), 77 I/O76 P4 (io), 78 I/O77 P1 (io), 183 I/O158 A1 (io), 184 I/O159 A4 (io), 188 I/O0 A6 (io), 189 I/O1 A7 (io), 190 I/O2 C0 (io), 191 I/O3 C1 (io), 192 I/O4 C2 (io), 193 I/O5 C3 (io), 194 I/O6 C4 (io), 195 I/O7 C5 (io), 196 I/O8 C6 (io), 197 I/O9 C7 (io), 200 I/O10 B0 (io), 201 I/O11 B1 (io), 202 I/O12 B2 (io), 203 I/O13 B3 (io), 204 I/O14 B4 (io), 205 I/O15 B5 (io), 206 I/O16 B6 (io), 207 I/O17 B7 (io)
part B pins: 79 I/O78 XA1 (io), 80 I/O79 XA4 (io), 84 I/O80 XA6 (io), 85 I/O81 XA7 (io), 86 I/O82 XC0 (io), 87 I/O83 XC1 (io), 88 I/O84 XC2 (io), 89 I/O85 XC3 (io), 90 I/O86 XC4 (io), 91 I/O87 XC5 (io), 92 I/O88 XC6 (io), 93 I/O89 XC7 (io), 96 I/O90 XB0 (io), 97 I/O91 XB1 (io), 98 I/O92 XB2 (io), 99 I/O93 XB3 (io), 100 I/O94 XB4 (io), 101 I/O95 XB5 (io), 102 I/O96 XB6 (io), 103 I/O97 XB7 (io), 107 I/O98 XF7 (io), 108 I/O99 XF6 (io), 109 I/O100 XF5 (io), 110 I/O101 XF4 (io), 111 I/O102 XF3 (io), 112 I/O103 XF2 (io), 113 I/O104 XF1 (io), 114 I/O105 XF0 (io), 117 I/O106 XG7 (io), 118 I/O107 XG6 (io), 119 I/O108 XG5 (io), 120 I/O109 XG4 (io), 121 I/O110 XG3 (io), 122 I/O111 XG2 (io), 123 I/O112 XG1 (io), 124 I/O113 XG0 (io), 125 I/O114 XE7 (io), 126 I/O115 XE5 (io), 129 I/O116 XE2 (io), 130 I/O117 XE0 (io), 131 I/O118 XL0 (io), 132 I/O119 XL2 (io), 133 I/O120 XL3 (io), 135 I/O121 XL5 (io), 136 I/O122 XJ0 (io), 137 I/O123 XJ1 (io), 138 I/O124 XJ2 (io), 139 I/O125 XJ3 (io), 140 I/O126 XJ4 (io), 141 I/O127 XJ5 (io), 142 I/O128 XJ6 (io), 143 I/O129 XJ7 (io), 146 I/O130 XK0 (io), 147 I/O131 XK1 (io), 148 I/O132 XK2 (io), 149 I/O133 XK3 (io), 150 I/O134 XK4 (io), 151 I/O135 XK5 (io), 152 I/O136 XK6 (io), 153 I/O137 XK7 (io), 158 I/O138 XO7 (io), 159 I/O139 XO6 (io), 160 I/O140 XO5 (io), 161 I/O141 XO4 (io), 162 I/O142 XO3 (io), 163 I/O143 XO2 (io), 164 I/O144 XO1 (io), 165 I/O145 XO0 (io), 168 I/O146 XN7 (io), 169 I/O147 XN6 (io), 170 I/O148 XN5 (io), 171 I/O149 XN4 (io), 172 I/O150 XN3 (io), 173 I/O151 XN2 (io), 174 I/O152 XN1 (io), 175 I/O153 XN0 (io), 176 I/O154 XP7 (io), 177 I/O155 XP6 (io), 181 I/O156 XP4 (io), 182 I/O157 XP1 (io)
part C pins: 1 GND (power), 2 TDI (in), 11 VCC (power), 12 GND (power), 23 GND (power), 24 VCC (power), 30 GND (power), 40 GND (power), 41 VCC (power), 50 TMS (in), 51 TCK (in), 52 GND (power), 53 GND (power), 62 GND (power), 63 VCC (power), 74 CLK1 (in), 75 VCC (power), 76 GND (power), 81 GND (power), 82 VCC (power), 83 CLK2 (in), 94 VCC (power), 95 GND (power), 104 GND (power), 105 GND (power), 106 NC, 115 VCC (power), 116 GND (power), 127 GND (power), 128 VCC (power), 134 GND (power), 144 GND (power), 145 VCC (power), 154 NC, 155 TDO (out), 156 GND (power), 157 GND (power), 166 GND (power), 167 VCC (power), 178 CLK3 (in), 179 VCC (power), 180 GND (power), 185 GND (power), 186 VCC (power), 187 CLK0 (in), 198 VCC (power), 199 GND (power), 208 GND (power)

## M4A3-512/160-14YI
designator U?
High-Performance EE CMOS In-System Programmable Logic; Published: 17-Jul-2002; LatestRevisionDate: 13-Apr-2006; LatestRevisionNote: IPC-7351 Footprint Added.; DatasheetVersion: Feb-2001; PackageVersion: pkg_32, Aug-2005; PackageReference: PQFP208; Publisher: Altium Limited; PackageDescription: 208-Pin Plastic Quad Flat Pack (PQFP208); Code_JEDEC: MO-143-FAI; ComponentLink1Description: Manufacturer Link; ComponentLink1URL: http://www.latticesemi.com/products/mature/index.cfm; ComponentLink2Description: Datasheet; ComponentLink2URL: http://www.latticesemi.com/account/_download.cfm?AMID=1344
footprint PQFP208_N (Shrink QFP, 208-Leads, Body 28x28mm, Pitch 0.5mm, IPC Medium Density)
footprint PQFP208_L (Shrink QFP, 208-Leads, Body 28x28mm, Pitch 0.5mm, IPC High Density)
footprint PQFP208_M (Shrink QFP, 208-Leads, Body 28x28mm, Pitch 0.5mm, IPC Low Density)
3D model M4A3-PQFP208 (208-Pin Plastic Quad Flat Pack (PQFP208))
part A pins: 3 I/O18 F7 (io), 4 I/O19 F6 (io), 5 I/O20 F5 (io), 6 I/O21 F4 (io), 7 I/O22 F3 (io), 8 I/O23 F2 (io), 9 I/O24 F1 (io), 10 I/O25 F0 (io), 13 I/O26 G7 (io), 14 I/O27 G6 (io), 15 I/O28 G5 (io), 16 I/O29 G4 (io), 17 I/O30 G3 (io), 18 I/O31 G2 (io), 19 I/O32 G1 (io), 20 I/O33 G0 (io), 21 I/O34 E7 (io), 22 I/O35 E5 (io), 25 I/O36 E2 (io), 26 I/O37 E0 (io), 27 I/O38 L0 (io), 28 I/O39 L2 (io), 29 I/O40 L3 (io), 31 I/O41 L5 (io), 32 I/O42 J0 (io), 33 I/O43 J1 (io), 34 I/O44 J2 (io), 35 I/O45 J3 (io), 36 I/O46 J4 (io), 37 I/O47 J5 (io), 38 I/O48 J6 (io), 39 I/O49 J7 (io), 42 I/O50 K0 (io), 43 I/O51 K1 (io), 44 I/O52 K2 (io), 45 I/O53 K3 (io), 46 I/O54 K4 (io), 47 I/O55 K5 (io), 48 I/O56 K6 (io), 49 I/O57 K7 (io), 54 I/O58 O7 (io), 55 I/O59 O6 (io), 56 I/O60 O5 (io), 57 I/O61 O4 (io), 58 I/O62 O3 (io), 59 I/O63 O2 (io), 60 I/O64 O1 (io), 61 I/O65 O0 (io), 64 I/O66 N7 (io), 65 I/O67 N6 (io), 66 I/O68 N5 (io), 67 I/O69 N4 (io), 68 I/O70 N3 (io), 69 I/O71 N2 (io), 70 I/O72 N1 (io), 71 I/O73 N0 (io), 72 I/O74 P7 (io), 73 I/O75 P6 (io), 77 I/O76 P4 (io), 78 I/O77 P1 (io), 183 I/O158 A1 (io), 184 I/O159 A4 (io), 188 I/O0 A6 (io), 189 I/O1 A7 (io), 190 I/O2 C0 (io), 191 I/O3 C1 (io), 192 I/O4 C2 (io), 193 I/O5 C3 (io), 194 I/O6 C4 (io), 195 I/O7 C5 (io), 196 I/O8 C6 (io), 197 I/O9 C7 (io), 200 I/O10 B0 (io), 201 I/O11 B1 (io), 202 I/O12 B2 (io), 203 I/O13 B3 (io), 204 I/O14 B4 (io), 205 I/O15 B5 (io), 206 I/O16 B6 (io), 207 I/O17 B7 (io)
part B pins: 79 I/O78 XA1 (io), 80 I/O79 XA4 (io), 84 I/O80 XA6 (io), 85 I/O81 XA7 (io), 86 I/O82 XC0 (io), 87 I/O83 XC1 (io), 88 I/O84 XC2 (io), 89 I/O85 XC3 (io), 90 I/O86 XC4 (io), 91 I/O87 XC5 (io), 92 I/O88 XC6 (io), 93 I/O89 XC7 (io), 96 I/O90 XB0 (io), 97 I/O91 XB1 (io), 98 I/O92 XB2 (io), 99 I/O93 XB3 (io), 100 I/O94 XB4 (io), 101 I/O95 XB5 (io), 102 I/O96 XB6 (io), 103 I/O97 XB7 (io), 107 I/O98 XF7 (io), 108 I/O99 XF6 (io), 109 I/O100 XF5 (io), 110 I/O101 XF4 (io), 111 I/O102 XF3 (io), 112 I/O103 XF2 (io), 113 I/O104 XF1 (io), 114 I/O105 XF0 (io), 117 I/O106 XG7 (io), 118 I/O107 XG6 (io), 119 I/O108 XG5 (io), 120 I/O109 XG4 (io), 121 I/O110 XG3 (io), 122 I/O111 XG2 (io), 123 I/O112 XG1 (io), 124 I/O113 XG0 (io), 125 I/O114 XE7 (io), 126 I/O115 XE5 (io), 129 I/O116 XE2 (io), 130 I/O117 XE0 (io), 131 I/O118 XL0 (io), 132 I/O119 XL2 (io), 133 I/O120 XL3 (io), 135 I/O121 XL5 (io), 136 I/O122 XJ0 (io), 137 I/O123 XJ1 (io), 138 I/O124 XJ2 (io), 139 I/O125 XJ3 (io), 140 I/O126 XJ4 (io), 141 I/O127 XJ5 (io), 142 I/O128 XJ6 (io), 143 I/O129 XJ7 (io), 146 I/O130 XK0 (io), 147 I/O131 XK1 (io), 148 I/O132 XK2 (io), 149 I/O133 XK3 (io), 150 I/O134 XK4 (io), 151 I/O135 XK5 (io), 152 I/O136 XK6 (io), 153 I/O137 XK7 (io), 158 I/O138 XO7 (io), 159 I/O139 XO6 (io), 160 I/O140 XO5 (io), 161 I/O141 XO4 (io), 162 I/O142 XO3 (io), 163 I/O143 XO2 (io), 164 I/O144 XO1 (io), 165 I/O145 XO0 (io), 168 I/O146 XN7 (io), 169 I/O147 XN6 (io), 170 I/O148 XN5 (io), 171 I/O149 XN4 (io), 172 I/O150 XN3 (io), 173 I/O151 XN2 (io), 174 I/O152 XN1 (io), 175 I/O153 XN0 (io), 176 I/O154 XP7 (io), 177 I/O155 XP6 (io), 181 I/O156 XP4 (io), 182 I/O157 XP1 (io)
part C pins: 1 GND (power), 2 TDI (in), 11 VCC (power), 12 GND (power), 23 GND (power), 24 VCC (power), 30 GND (power), 40 GND (power), 41 VCC (power), 50 TMS (in), 51 TCK (in), 52 GND (power), 53 GND (power), 62 GND (power), 63 VCC (power), 74 CLK1 (in), 75 VCC (power), 76 GND (power), 81 GND (power), 82 VCC (power), 83 CLK2 (in), 94 VCC (power), 95 GND (power), 104 GND (power), 105 GND (power), 106 NC, 115 VCC (power), 116 GND (power), 127 GND (power), 128 VCC (power), 134 GND (power), 144 GND (power), 145 VCC (power), 154 NC, 155 TDO (out), 156 GND (power), 157 GND (power), 166 GND (power), 167 VCC (power), 178 CLK3 (in), 179 VCC (power), 180 GND (power), 185 GND (power), 186 VCC (power), 187 CLK0 (in), 198 VCC (power), 199 GND (power), 208 GND (power)

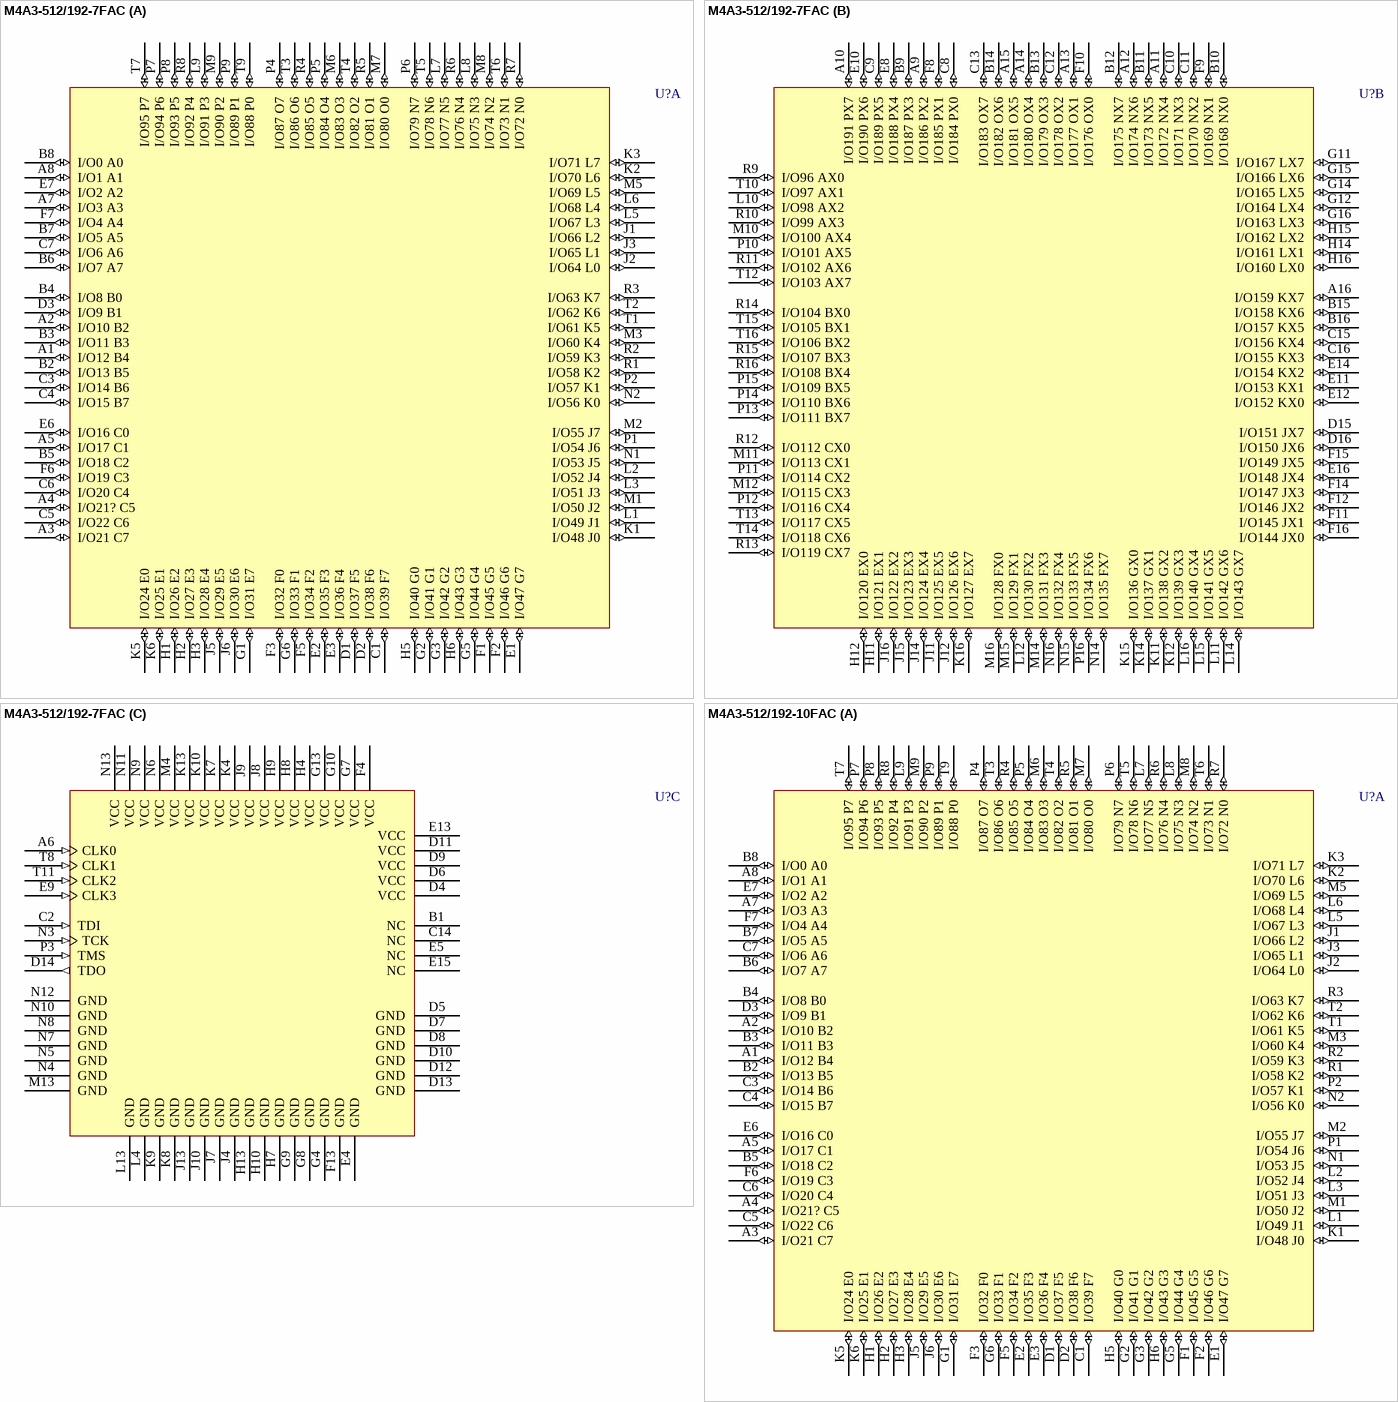
[diagram p92: symbols M4A3-512/192-7FAC to M4A3-512/192-10FAC]

## M4A3-512/192-7FAC
designator U?
High-Performance EE CMOS In-System Programmable Logic; Published: 17-Jul-2002; LatestRevisionDate: 13-Apr-2006; LatestRevisionNote: IPC-7351 Footprint Added.; DatasheetVersion: Feb-2001; PackageVersion: pkg_32, Aug-2005; PackageReference: fpBGA256; Publisher: Altium Limited; PackageDescription: 256-Ball Fine Pitch Ball Grid Array (fpBGA256); Code_IPC: BGA100P16X16-256; ComponentLink1Description: Manufacturer Link; ComponentLink1URL: http://www.latticesemi.com/products/mature/index.cfm; ComponentLink2Description: Datasheet; ComponentLink2URL: http://www.latticesemi.com/account/_download.cfm?AMID=1344
footprint fpBGA256 (BGA, 256-Leads, Body 17x17mm, Pitch 1mm)
3D model M4A3-fpBGA256 (256-Ball Fine Pitch Ball Grid Array (fpBGA256))
part A pins: A1 I/O12 B4 (io), A2 I/O10 B2 (io), A3 I/O21 C7 (io), A4 I/O21? C5 (io), A5 I/O17 C1 (io), A7 I/O3 A3 (io), A8 I/O1 A1 (io), B2 I/O13 B5 (io), B3 I/O11 B3 (io), B4 I/O8 B0 (io), B5 I/O18 C2 (io), B6 I/O7 A7 (io), B7 I/O5 A5 (io), B8 I/O0 A0 (io), C1 I/O39 F7 (io), C3 I/O14 B6 (io), C4 I/O15 B7 (io), C5 I/O22 C6 (io), C6 I/O20 C4 (io), C7 I/O6 A6 (io), D1 I/O37 F5 (io), D2 I/O38 F6 (io), D3 I/O9 B1 (io), E1 I/O47 G7 (io), E2 I/O35 F3 (io), E3 I/O36 F4 (io), E6 I/O16 C0 (io), E7 I/O2 A2 (io), F1 I/O45 G5 (io), F2 I/O46 G6 (io), F3 I/O32 F0 (io), F5 I/O34 F2 (io), F6 I/O19 C3 (io), F7 I/O4 A4 (io), G1 I/O31 E7 (io), G2 I/O41 G1 (io), G3 I/O42 G2 (io), G5 I/O44 G4 (io), G6 I/O33 F1 (io), H1 I/O26 E2 (io), H2 I/O27 E3 (io), H3 I/O28 E4 (io), H5 I/O40 G0 (io), H6 I/O43 G3 (io), J1 I/O66 L2 (io), J2 I/O64 L0 (io), J3 I/O65 L1 (io), J5 I/O29 E5 (io), J6 I/O30 E6 (io), K1 I/O48 J0 (io), K2 I/O70 L6 (io), K3 I/O71 L7 (io), K5 I/O24 E0 (io), K6 I/O25 E1 (io), L1 I/O49 J1 (io), L2 I/O52 J4 (io), L3 I/O51 J3 (io), L5 I/O67 L3 (io), L6 I/O68 L4 (io), L7 I/O77 N5 (io), L8 I/O75 N3 (io), L9 I/O91 P3 (io), M1 I/O50 J2 (io), M2 I/O55 J7 (io), M3 I/O60 K4 (io), M5 I/O69 L5 (io), M6 I/O83 O3 (io), M7 I/O80 O0 (io), M8 I/O74 N2 (io), M9 I/O90 P2 (io), N1 I/O53 J5 (io), N2 I/O56 K0 (io), P1 I/O54 J6 (io), P2 I/O57 K1 (io), P4 I/O87 O7 (io), P5 I/O84 O4 (io), P6 I/O79 N7 (io), P7 I/O94 P6 (io), P8 I/O93 P5 (io), P9 I/O89 P1 (io), R1 I/O58 K2 (io), R2 I/O59 K3 (io), R3 I/O63 K7 (io), R4 I/O85 O5 (io), R5 I/O81 O1 (io), R6 I/O76 N4 (io), R7 I/O72 N0 (io), R8 I/O92 P4 (io), T1 I/O61 K5 (io), T2 I/O62 K6 (io), T3 I/O86 O6 (io), T4 I/O82 O2 (io), T5 I/O78 N6 (io), T6 I/O73 N1 (io), T7 I/O95 P7 (io), T9 I/O88 P0 (io)
part B pins: A9 I/O186 PX2 (io), A10 I/O191 PX7 (io), A11 I/O172 NX4 (io), A12 I/O174 NX6 (io), A13 I/O177 OX1 (io), A14 I/O180 OX4 (io), A15 I/O181 OX5 (io), A16 I/O159 KX7 (io), B9 I/O187 PX3 (io), B10 I/O168 NX0 (io), B11 I/O173 NX5 (io), B12 I/O175 NX7 (io), B13 I/O179 OX3 (io), B14 I/O182 OX6 (io), B15 I/O158 KX6 (io), B16 I/O157 KX5 (io), C8 I/O184 PX0 (io), C9 I/O189 PX5 (io), C10 I/O171 NX3 (io), C11 I/O170 NX2 (io), C12 I/O178 OX2 (io), C13 I/O183 OX7 (io), C15 I/O156 KX4 (io), C16 I/O155 KX3 (io), D15 I/O151 JX7 (io), D16 I/O150 JX6 (io), E8 I/O188 PX4 (io), E10 I/O190 PX6 (io), E11 I/O153 KX1 (io), E12 I/O152 KX0 (io), E14 I/O154 KX2 (io), E16 I/O148 JX4 (io), F8 I/O185 PX1 (io), F9 I/O169 NX1 (io), F10 I/O176 OX0 (io), F11 I/O145 JX1 (io), F12 I/O146 JX2 (io), F14 I/O147 JX3 (io), F15 I/O149 JX5 (io), F16 I/O144 JX0 (io), G11 I/O167 LX7 (io), G12 I/O164 LX4 (io), G14 I/O165 LX5 (io), G15 I/O166 LX6 (io), G16 I/O163 LX3 (io), H11 I/O121 EX1 (io), H12 I/O120 EX0 (io), H14 I/O161 LX1 (io), H15 I/O162 LX2 (io), H16 I/O160 LX0 (io), J11 I/O125 EX5 (io), J12 I/O126 EX6 (io), J14 I/O124 EX4 (io), J15 I/O123 EX3 (io), J16 I/O122 EX2 (io), K11 I/O138 GX2 (io), K12 I/O139 GX3 (io), K14 I/O137 GX1 (io), K15 I/O136 GX0 (io), K16 I/O127 EX7 (io), L10 I/O98 AX2 (io), L11 I/O142 GX6 (io), L12 I/O130 FX2 (io), L14 I/O143 GX7 (io), L15 I/O141 GX5 (io), L16 I/O140 GX4 (io), M10 I/O100 AX4 (io), M11 I/O113 CX1 (io), M12 I/O115 CX3 (io), M14 I/O131 FX3 (io), M15 I/O129 FX1 (io), M16 I/O128 FX0 (io), N14 I/O135 FX7 (io), N15 I/O133 FX5 (io), N16 I/O132 FX4 (io), P10 I/O101 AX5 (io), P11 I/O114 CX2 (io), P12 I/O116 CX4 (io), P13 I/O111 BX7 (io), P14 I/O110 BX6 (io), P15 I/O109 BX5 (io), P16 I/O134 FX6 (io), R9 I/O96 AX0 (io), R10 I/O99 AX3 (io), R11 I/O102 AX6 (io), R12 I/O112 CX0 (io), R13 I/O119 CX7 (io), R14 I/O104 BX0 (io), R15 I/O107 BX3 (io), R16 I/O108 BX4 (io), T10 I/O97 AX1 (io), T12 I/O103 AX7 (io), T13 I/O117 CX5 (io), T14 I/O118 CX6 (io), T15 I/O105 BX1 (io), T16 I/O106 BX2 (io)
part C pins: A6 CLK0 (in), B1 NC, C2 TDI (in), C14 NC, D4 VCC (power), D5 GND (power), D6 VCC (power), D7 GND (power), D8 GND (power), D9 VCC (power), D10 GND (power), D11 VCC (power), D12 GND (power), D13 GND (power), D14 TDO (out), E4 GND (power), E5 NC, E9 CLK3 (in), E13 VCC (power), E15 NC, F4 VCC (power), F13 GND (power), G4 GND (power), G7 VCC (power), G8 GND (power), G9 GND (power), G10 VCC (power), G13 VCC (power), H4 VCC (power), H7 GND (power), H8 VCC (power), H9 VCC (power), H10 GND (power), H13 GND (power), J4 GND (power), J7 GND (power), J8 VCC (power), J9 VCC (power), J10 GND (power), J13 GND (power), K4 VCC (power), K7 VCC (power), K8 GND (power), K9 GND (power), K10 VCC (power), K13 VCC (power), L4 GND (power), L13 GND (power), M4 VCC (power), M13 GND (power), N3 TCK (in), N4 GND (power), N5 GND (power), N6 VCC (power), N7 GND (power), N8 GND (power), N9 VCC (power), N10 GND (power), N11 VCC (power), N12 GND (power), N13 VCC (power), P3 TMS (in), T8 CLK1 (in), T11 CLK2 (in)

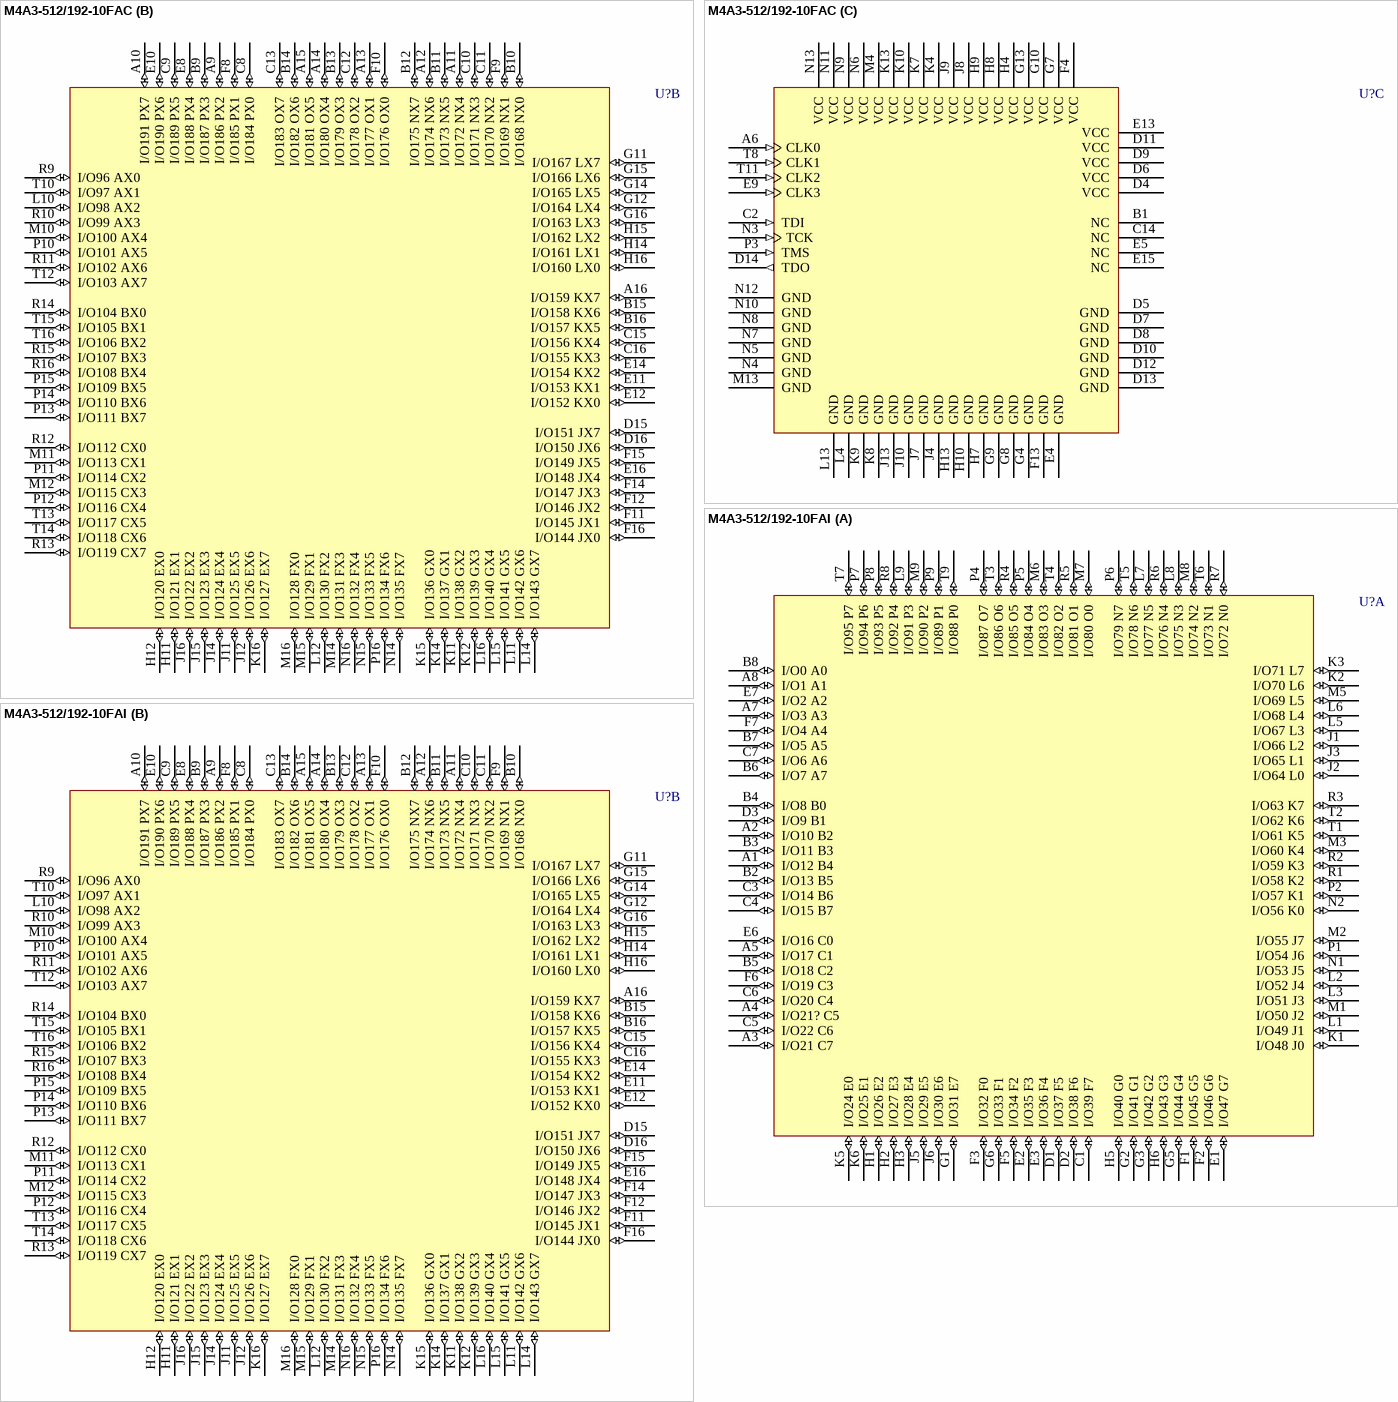
[diagram p93: symbols M4A3-512/192-10FAC to M4A3-512/192-10FAI]

## M4A3-512/192-10FAC
designator U?
High-Performance EE CMOS In-System Programmable Logic; Published: 17-Jul-2002; LatestRevisionDate: 13-Apr-2006; LatestRevisionNote: IPC-7351 Footprint Added.; DatasheetVersion: Feb-2001; PackageVersion: pkg_32, Aug-2005; PackageReference: fpBGA256; Publisher: Altium Limited; PackageDescription: 256-Ball Fine Pitch Ball Grid Array (fpBGA256); Code_IPC: BGA100P16X16-256; ComponentLink1Description: Manufacturer Link; ComponentLink1URL: http://www.latticesemi.com/products/mature/index.cfm; ComponentLink2Description: Datasheet; ComponentLink2URL: http://www.latticesemi.com/account/_download.cfm?AMID=1344
footprint fpBGA256 (BGA, 256-Leads, Body 17x17mm, Pitch 1mm)
3D model M4A3-fpBGA256 (256-Ball Fine Pitch Ball Grid Array (fpBGA256))
part A pins: A1 I/O12 B4 (io), A2 I/O10 B2 (io), A3 I/O21 C7 (io), A4 I/O21? C5 (io), A5 I/O17 C1 (io), A7 I/O3 A3 (io), A8 I/O1 A1 (io), B2 I/O13 B5 (io), B3 I/O11 B3 (io), B4 I/O8 B0 (io), B5 I/O18 C2 (io), B6 I/O7 A7 (io), B7 I/O5 A5 (io), B8 I/O0 A0 (io), C1 I/O39 F7 (io), C3 I/O14 B6 (io), C4 I/O15 B7 (io), C5 I/O22 C6 (io), C6 I/O20 C4 (io), C7 I/O6 A6 (io), D1 I/O37 F5 (io), D2 I/O38 F6 (io), D3 I/O9 B1 (io), E1 I/O47 G7 (io), E2 I/O35 F3 (io), E3 I/O36 F4 (io), E6 I/O16 C0 (io), E7 I/O2 A2 (io), F1 I/O45 G5 (io), F2 I/O46 G6 (io), F3 I/O32 F0 (io), F5 I/O34 F2 (io), F6 I/O19 C3 (io), F7 I/O4 A4 (io), G1 I/O31 E7 (io), G2 I/O41 G1 (io), G3 I/O42 G2 (io), G5 I/O44 G4 (io), G6 I/O33 F1 (io), H1 I/O26 E2 (io), H2 I/O27 E3 (io), H3 I/O28 E4 (io), H5 I/O40 G0 (io), H6 I/O43 G3 (io), J1 I/O66 L2 (io), J2 I/O64 L0 (io), J3 I/O65 L1 (io), J5 I/O29 E5 (io), J6 I/O30 E6 (io), K1 I/O48 J0 (io), K2 I/O70 L6 (io), K3 I/O71 L7 (io), K5 I/O24 E0 (io), K6 I/O25 E1 (io), L1 I/O49 J1 (io), L2 I/O52 J4 (io), L3 I/O51 J3 (io), L5 I/O67 L3 (io), L6 I/O68 L4 (io), L7 I/O77 N5 (io), L8 I/O75 N3 (io), L9 I/O91 P3 (io), M1 I/O50 J2 (io), M2 I/O55 J7 (io), M3 I/O60 K4 (io), M5 I/O69 L5 (io), M6 I/O83 O3 (io), M7 I/O80 O0 (io), M8 I/O74 N2 (io), M9 I/O90 P2 (io), N1 I/O53 J5 (io), N2 I/O56 K0 (io), P1 I/O54 J6 (io), P2 I/O57 K1 (io), P4 I/O87 O7 (io), P5 I/O84 O4 (io), P6 I/O79 N7 (io), P7 I/O94 P6 (io), P8 I/O93 P5 (io), P9 I/O89 P1 (io), R1 I/O58 K2 (io), R2 I/O59 K3 (io), R3 I/O63 K7 (io), R4 I/O85 O5 (io), R5 I/O81 O1 (io), R6 I/O76 N4 (io), R7 I/O72 N0 (io), R8 I/O92 P4 (io), T1 I/O61 K5 (io), T2 I/O62 K6 (io), T3 I/O86 O6 (io), T4 I/O82 O2 (io), T5 I/O78 N6 (io), T6 I/O73 N1 (io), T7 I/O95 P7 (io), T9 I/O88 P0 (io)
part B pins: A9 I/O186 PX2 (io), A10 I/O191 PX7 (io), A11 I/O172 NX4 (io), A12 I/O174 NX6 (io), A13 I/O177 OX1 (io), A14 I/O180 OX4 (io), A15 I/O181 OX5 (io), A16 I/O159 KX7 (io), B9 I/O187 PX3 (io), B10 I/O168 NX0 (io), B11 I/O173 NX5 (io), B12 I/O175 NX7 (io), B13 I/O179 OX3 (io), B14 I/O182 OX6 (io), B15 I/O158 KX6 (io), B16 I/O157 KX5 (io), C8 I/O184 PX0 (io), C9 I/O189 PX5 (io), C10 I/O171 NX3 (io), C11 I/O170 NX2 (io), C12 I/O178 OX2 (io), C13 I/O183 OX7 (io), C15 I/O156 KX4 (io), C16 I/O155 KX3 (io), D15 I/O151 JX7 (io), D16 I/O150 JX6 (io), E8 I/O188 PX4 (io), E10 I/O190 PX6 (io), E11 I/O153 KX1 (io), E12 I/O152 KX0 (io), E14 I/O154 KX2 (io), E16 I/O148 JX4 (io), F8 I/O185 PX1 (io), F9 I/O169 NX1 (io), F10 I/O176 OX0 (io), F11 I/O145 JX1 (io), F12 I/O146 JX2 (io), F14 I/O147 JX3 (io), F15 I/O149 JX5 (io), F16 I/O144 JX0 (io), G11 I/O167 LX7 (io), G12 I/O164 LX4 (io), G14 I/O165 LX5 (io), G15 I/O166 LX6 (io), G16 I/O163 LX3 (io), H11 I/O121 EX1 (io), H12 I/O120 EX0 (io), H14 I/O161 LX1 (io), H15 I/O162 LX2 (io), H16 I/O160 LX0 (io), J11 I/O125 EX5 (io), J12 I/O126 EX6 (io), J14 I/O124 EX4 (io), J15 I/O123 EX3 (io), J16 I/O122 EX2 (io), K11 I/O138 GX2 (io), K12 I/O139 GX3 (io), K14 I/O137 GX1 (io), K15 I/O136 GX0 (io), K16 I/O127 EX7 (io), L10 I/O98 AX2 (io), L11 I/O142 GX6 (io), L12 I/O130 FX2 (io), L14 I/O143 GX7 (io), L15 I/O141 GX5 (io), L16 I/O140 GX4 (io), M10 I/O100 AX4 (io), M11 I/O113 CX1 (io), M12 I/O115 CX3 (io), M14 I/O131 FX3 (io), M15 I/O129 FX1 (io), M16 I/O128 FX0 (io), N14 I/O135 FX7 (io), N15 I/O133 FX5 (io), N16 I/O132 FX4 (io), P10 I/O101 AX5 (io), P11 I/O114 CX2 (io), P12 I/O116 CX4 (io), P13 I/O111 BX7 (io), P14 I/O110 BX6 (io), P15 I/O109 BX5 (io), P16 I/O134 FX6 (io), R9 I/O96 AX0 (io), R10 I/O99 AX3 (io), R11 I/O102 AX6 (io), R12 I/O112 CX0 (io), R13 I/O119 CX7 (io), R14 I/O104 BX0 (io), R15 I/O107 BX3 (io), R16 I/O108 BX4 (io), T10 I/O97 AX1 (io), T12 I/O103 AX7 (io), T13 I/O117 CX5 (io), T14 I/O118 CX6 (io), T15 I/O105 BX1 (io), T16 I/O106 BX2 (io)
part C pins: A6 CLK0 (in), B1 NC, C2 TDI (in), C14 NC, D4 VCC (power), D5 GND (power), D6 VCC (power), D7 GND (power), D8 GND (power), D9 VCC (power), D10 GND (power), D11 VCC (power), D12 GND (power), D13 GND (power), D14 TDO (out), E4 GND (power), E5 NC, E9 CLK3 (in), E13 VCC (power), E15 NC, F4 VCC (power), F13 GND (power), G4 GND (power), G7 VCC (power), G8 GND (power), G9 GND (power), G10 VCC (power), G13 VCC (power), H4 VCC (power), H7 GND (power), H8 VCC (power), H9 VCC (power), H10 GND (power), H13 GND (power), J4 GND (power), J7 GND (power), J8 VCC (power), J9 VCC (power), J10 GND (power), J13 GND (power), K4 VCC (power), K7 VCC (power), K8 GND (power), K9 GND (power), K10 VCC (power), K13 VCC (power), L4 GND (power), L13 GND (power), M4 VCC (power), M13 GND (power), N3 TCK (in), N4 GND (power), N5 GND (power), N6 VCC (power), N7 GND (power), N8 GND (power), N9 VCC (power), N10 GND (power), N11 VCC (power), N12 GND (power), N13 VCC (power), P3 TMS (in), T8 CLK1 (in), T11 CLK2 (in)

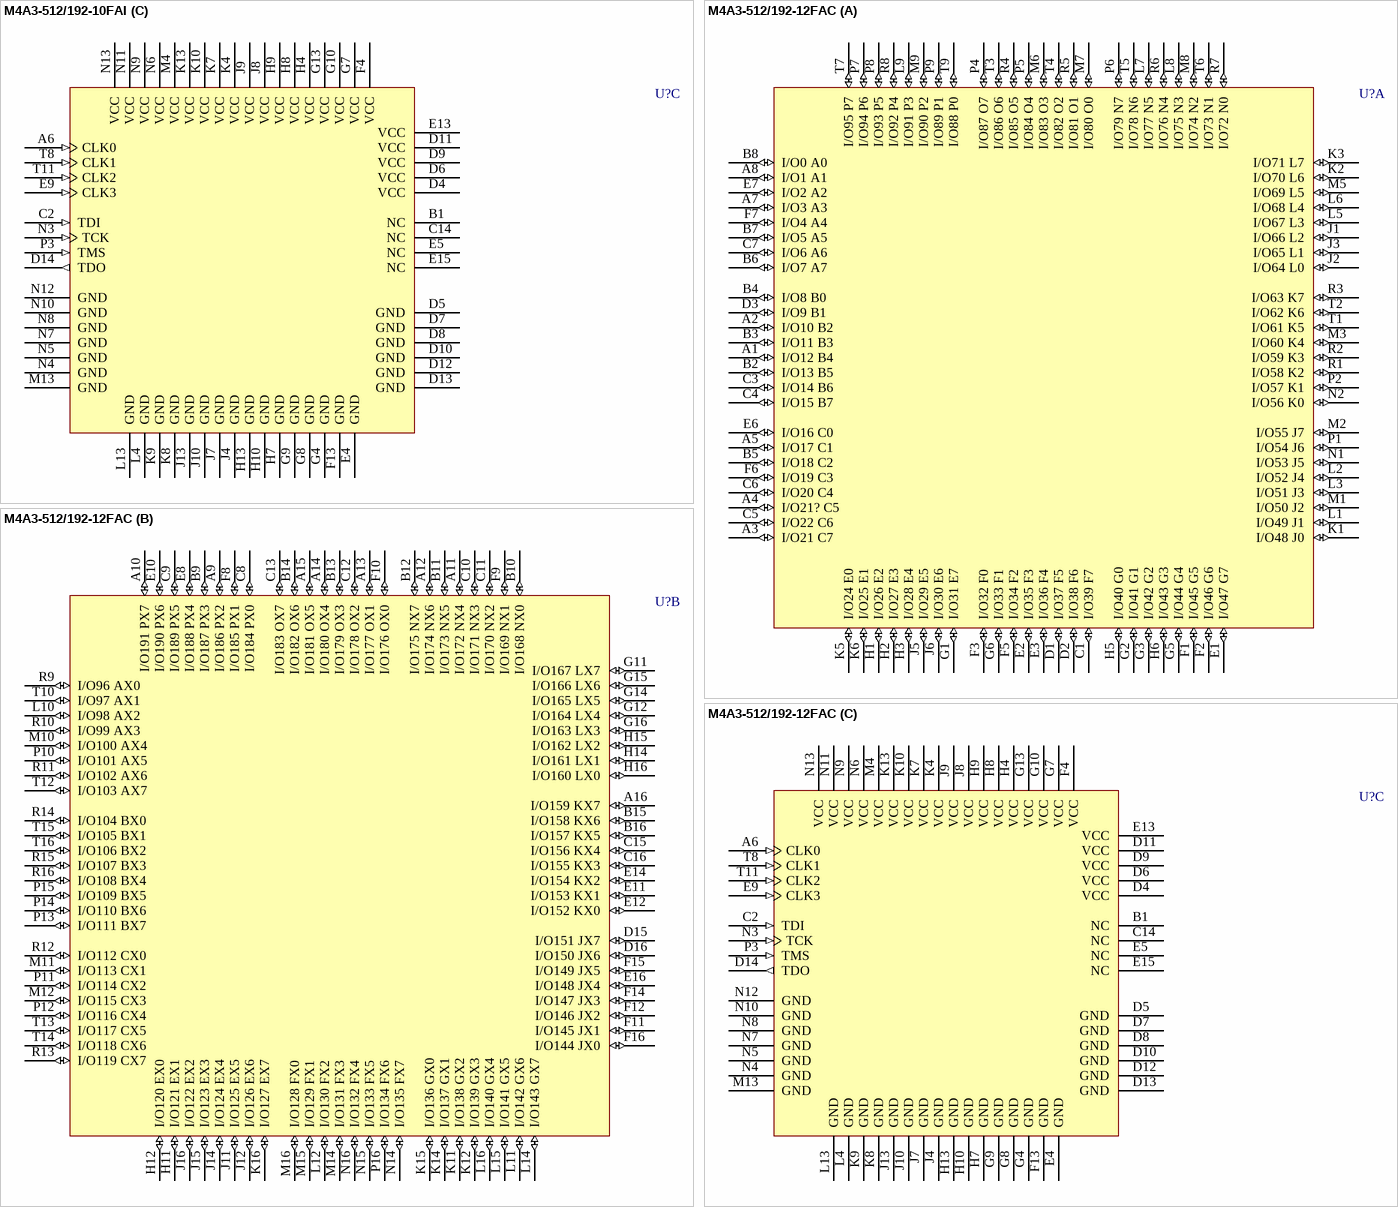
[diagram p94: symbols M4A3-512/192-10FAI to M4A3-512/192-12FAC]